# Altium schematic symbol library IntelFPGA.SchLib: 8 symbols (part 1 of 2)
Pins are listed as number, name and electrical type; pins without a type are passive.

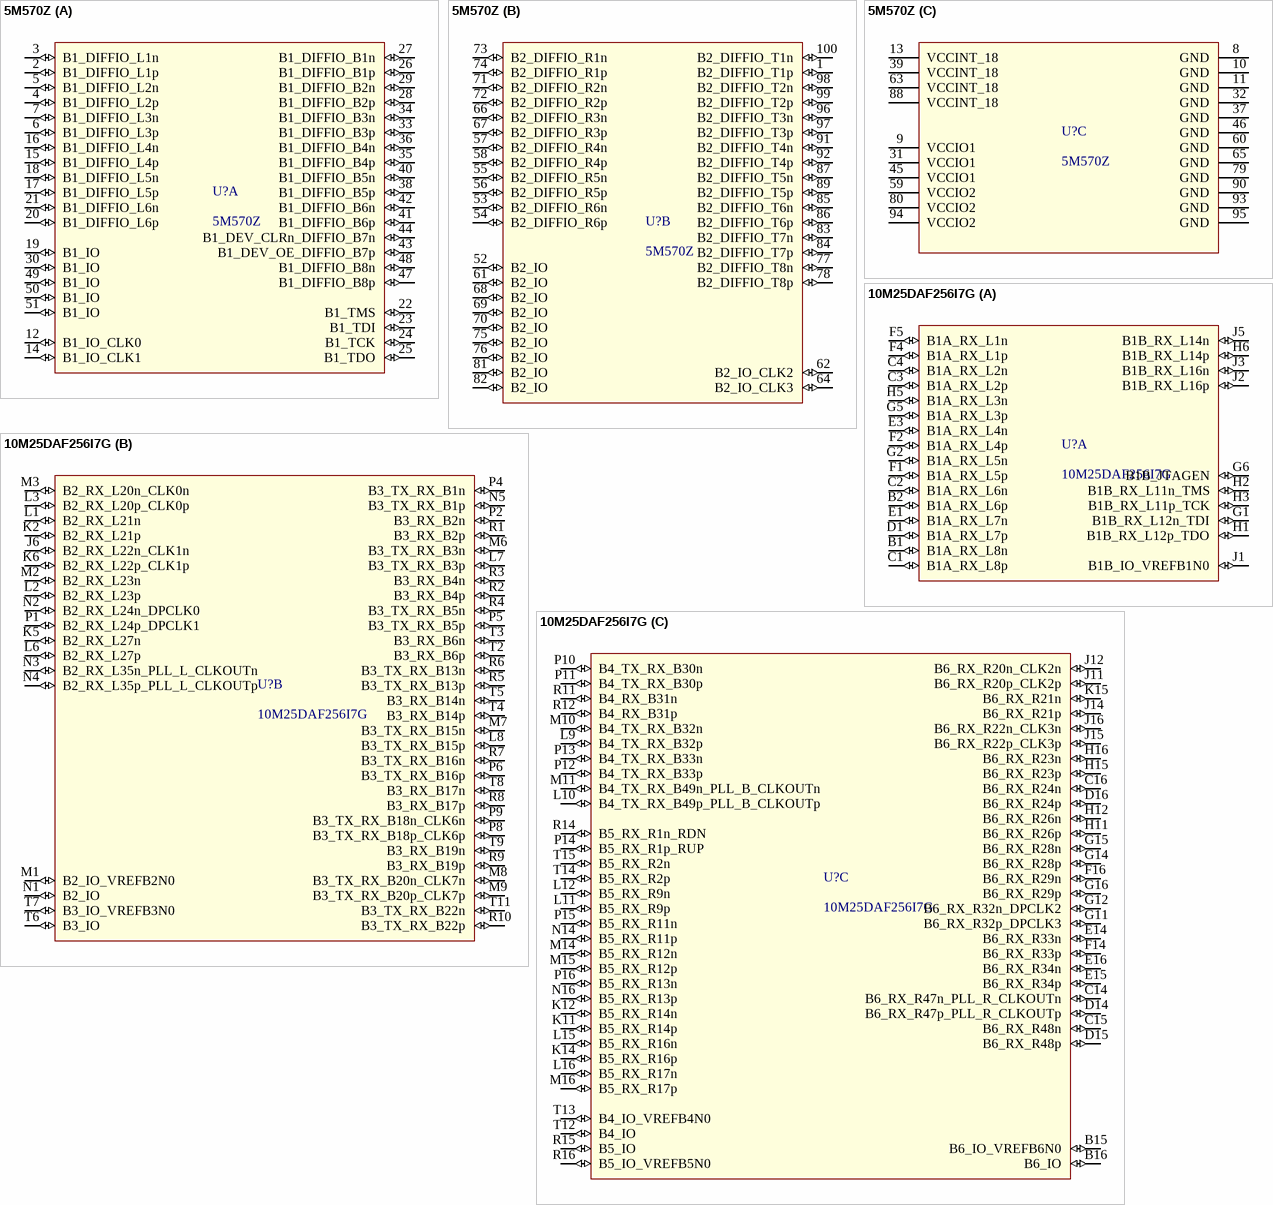
[diagram p0: symbols 5M570Z to 10M25DAF256I7G]

## 5M570Z
designator U?
Manufacturer: Intel; Part number: 10M25DAF256I7G
footprint LQFP100
part A pins: 2 B1_DIFFIO_L1p (io), 3 B1_DIFFIO_L1n (io), 4 B1_DIFFIO_L2p (io), 5 B1_DIFFIO_L2n (io), 6 B1_DIFFIO_L3p (io), 7 B1_DIFFIO_L3n (io), 12 B1_IO_CLK0 (io), 14 B1_IO_CLK1 (io), 15 B1_DIFFIO_L4p (io), 16 B1_DIFFIO_L4n (io), 17 B1_DIFFIO_L5p (io), 18 B1_DIFFIO_L5n (io), 19 B1_IO (io), 20 B1_DIFFIO_L6p (io), 21 B1_DIFFIO_L6n (io), 22 B1_TMS (io), 23 B1_TDI (io), 24 B1_TCK (io), 25 B1_TDO (io), 26 B1_DIFFIO_B1p (io), 27 B1_DIFFIO_B1n (io), 28 B1_DIFFIO_B2p (io), 29 B1_DIFFIO_B2n (io), 30 B1_IO (io), 33 B1_DIFFIO_B3p (io), 34 B1_DIFFIO_B3n (io), 35 B1_DIFFIO_B4p (io), 36 B1_DIFFIO_B4n (io), 38 B1_DIFFIO_B5p (io), 40 B1_DIFFIO_B5n (io), 41 B1_DIFFIO_B6p (io), 42 B1_DIFFIO_B6n (io), 43 B1_DEV_OE_DIFFIO_B7p (io), 44 B1_DEV_CLRn_DIFFIO_B7n (io), 47 B1_DIFFIO_B8p (io), 48 B1_DIFFIO_B8n (io), 49 B1_IO (io), 50 B1_IO (io), 51 B1_IO (io)
part B pins: 1 B2_DIFFIO_T1p (io), 52 B2_IO (io), 53 B2_DIFFIO_R6n (io), 54 B2_DIFFIO_R6p (io), 55 B2_DIFFIO_R5n (io), 56 B2_DIFFIO_R5p (io), 57 B2_DIFFIO_R4n (io), 58 B2_DIFFIO_R4p (io), 61 B2_IO (io), 62 B2_IO_CLK2 (io), 64 B2_IO_CLK3 (io), 66 B2_DIFFIO_R3n (io), 67 B2_DIFFIO_R3p (io), 68 B2_IO (io), 69 B2_IO (io), 70 B2_IO (io), 71 B2_DIFFIO_R2n (io), 72 B2_DIFFIO_R2p (io), 73 B2_DIFFIO_R1n (io), 74 B2_DIFFIO_R1p (io), 75 B2_IO (io), 76 B2_IO (io), 77 B2_DIFFIO_T8n (io), 78 B2_DIFFIO_T8p (io), 81 B2_IO (io), 82 B2_IO (io), 83 B2_DIFFIO_T7n (io), 84 B2_DIFFIO_T7p (io), 85 B2_DIFFIO_T6n (io), 86 B2_DIFFIO_T6p (io), 87 B2_DIFFIO_T5n (io), 89 B2_DIFFIO_T5p (io), 91 B2_DIFFIO_T4n (io), 92 B2_DIFFIO_T4p (io), 96 B2_DIFFIO_T3n (io), 97 B2_DIFFIO_T3p (io), 98 B2_DIFFIO_T2n (io), 99 B2_DIFFIO_T2p (io), 100 B2_DIFFIO_T1n (io)
part C pins: 8 GND (power), 9 VCCIO1 (power), 10 GND (power), 11 GND (power), 13 VCCINT_18 (power), 31 VCCIO1 (power), 32 GND (power), 37 GND (power), 39 VCCINT_18 (power), 45 VCCIO1 (power), 46 GND (power), 59 VCCIO2 (power), 60 GND (power), 63 VCCINT_18 (power), 65 GND (power), 79 GND (power), 80 VCCIO2 (power), 88 VCCINT_18 (power), 90 GND (power), 93 GND (power), 94 VCCIO2 (power), 95 GND (power)

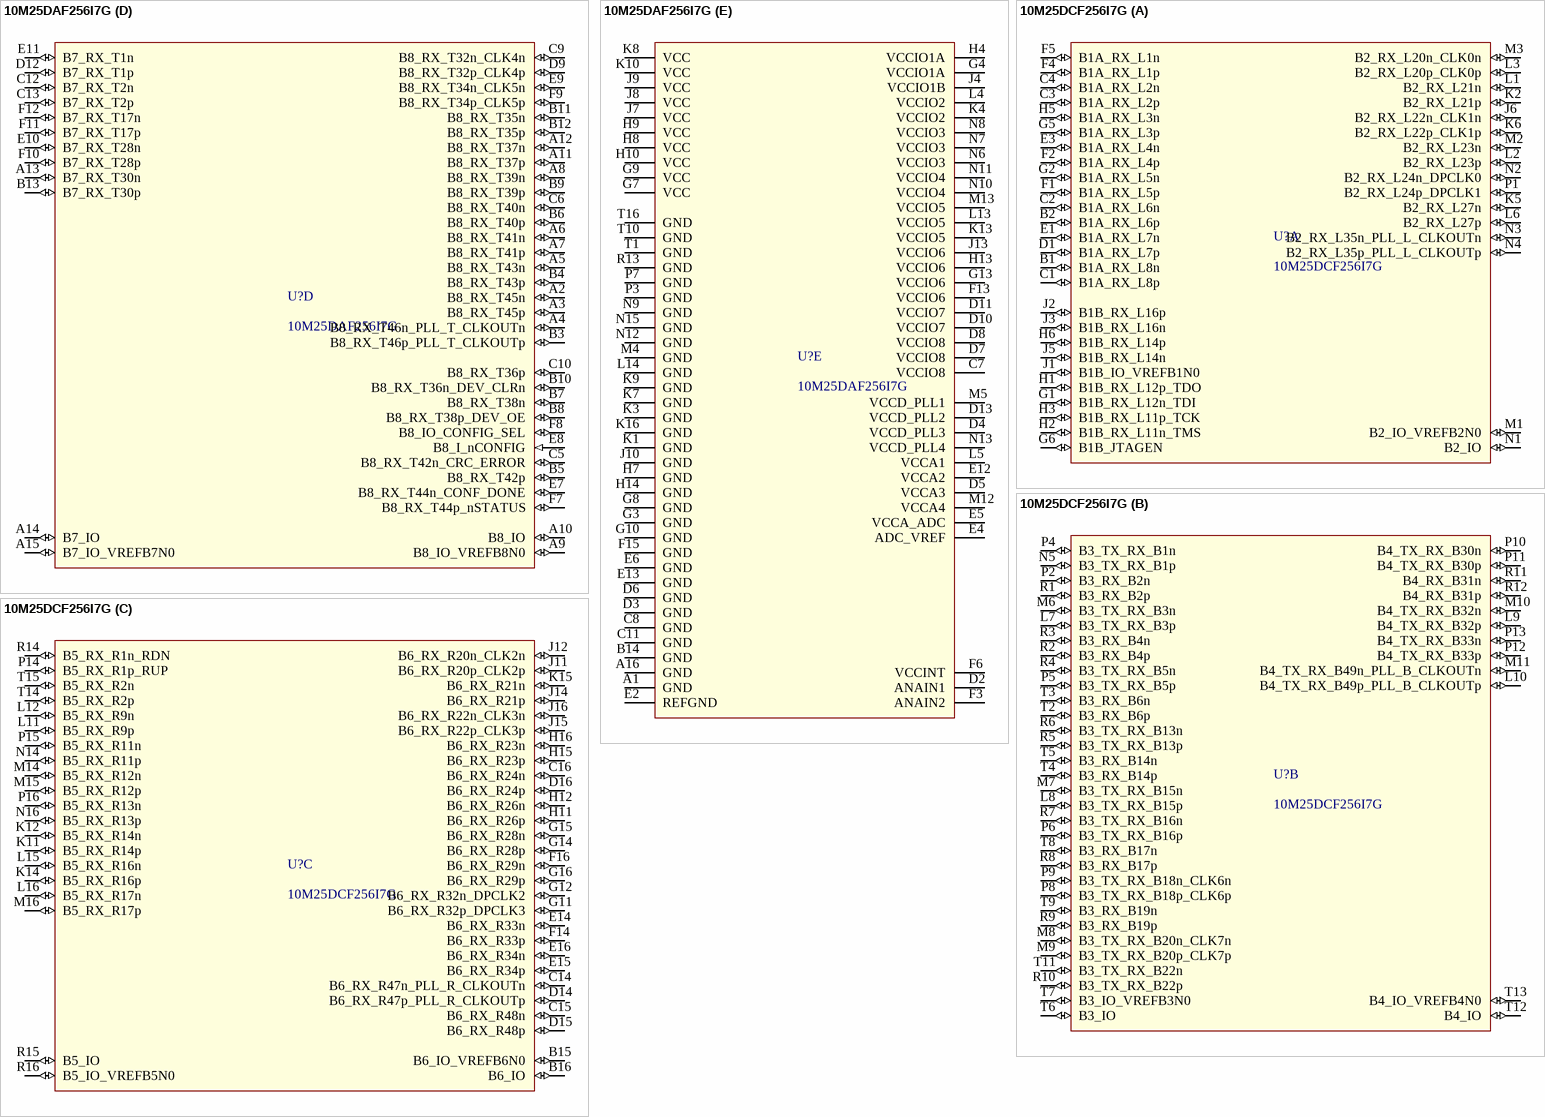
[diagram p1: symbols 10M25DAF256I7G to 10M25DCF256I7G]

## 10M25DAF256I7G
designator U?
Manufacturer: Intel; Part number: 10M25DAF256I7G
footprint BGA256C100P16X16_1700X1700X155
part A pins: B1 B1A_RX_L8n (io), B2 B1A_RX_L6p (io), C1 B1A_RX_L8p (io), C2 B1A_RX_L6n (io), C3 B1A_RX_L2p (io), C4 B1A_RX_L2n (io), D1 B1A_RX_L7p (io), E1 B1A_RX_L7n (io), E3 B1A_RX_L4n (io), F1 B1A_RX_L5p (io), F2 B1A_RX_L4p (io), F4 B1A_RX_L1p (io), F5 B1A_RX_L1n (io), G1 B1B_RX_L12n_TDI (io), G2 B1A_RX_L5n (io), G5 B1A_RX_L3p (io), G6 B1B_JTAGEN (io), H1 B1B_RX_L12p_TDO (io), H2 B1B_RX_L11n_TMS (io), H3 B1B_RX_L11p_TCK (io), H5 B1A_RX_L3n (io), H6 B1B_RX_L14p (io), J1 B1B_IO_VREFB1N0 (io), J2 B1B_RX_L16p (io), J3 B1B_RX_L16n (io), J5 B1B_RX_L14n (io)
part B pins: J6 B2_RX_L22n_CLK1n (io), K2 B2_RX_L21p (io), K5 B2_RX_L27n (io), K6 B2_RX_L22p_CLK1p (io), L1 B2_RX_L21n (io), L2 B2_RX_L23p (io), L3 B2_RX_L20p_CLK0p (io), L6 B2_RX_L27p (io), L7 B3_TX_RX_B3p (io), L8 B3_TX_RX_B15p (io), M1 B2_IO_VREFB2N0 (io), M2 B2_RX_L23n (io), M3 B2_RX_L20n_CLK0n (io), M6 B3_TX_RX_B3n (io), M7 B3_TX_RX_B15n (io), M8 B3_TX_RX_B20n_CLK7n (io), M9 B3_TX_RX_B20p_CLK7p (io), N1 B2_IO (io), N2 B2_RX_L24n_DPCLK0 (io), N3 B2_RX_L35n_PLL_L_CLKOUTn (io), N4 B2_RX_L35p_PLL_L_CLKOUTp (io), N5 B3_TX_RX_B1p (io), P1 B2_RX_L24p_DPCLK1 (io), P2 B3_RX_B2n (io), P4 B3_TX_RX_B1n (io), P5 B3_TX_RX_B5p (io), P6 B3_TX_RX_B16p (io), P8 B3_TX_RX_B18p_CLK6p (io), P9 B3_TX_RX_B18n_CLK6n (io), R1 B3_RX_B2p (io), R2 B3_RX_B4p (io), R3 B3_RX_B4n (io), R4 B3_TX_RX_B5n (io), R5 B3_TX_RX_B13p (io), R6 B3_TX_RX_B13n (io), R7 B3_TX_RX_B16n (io), R8 B3_RX_B17p (io), R9 B3_RX_B19p (io), R10 B3_TX_RX_B22p (io), T2 B3_RX_B6p (io), T3 B3_RX_B6n (io), T4 B3_RX_B14p (io), T5 B3_RX_B14n (io), T6 B3_IO (io), T7 B3_IO_VREFB3N0 (io), T8 B3_RX_B17n (io), T9 B3_RX_B19n (io), T11 B3_TX_RX_B22n (io)
part C pins: B15 B6_IO_VREFB6N0 (io), B16 B6_IO (io), C14 B6_RX_R47n_PLL_R_CLKOUTn (io), C15 B6_RX_R48n (io), C16 B6_RX_R24n (io), D14 B6_RX_R47p_PLL_R_CLKOUTp (io), D15 B6_RX_R48p (io), D16 B6_RX_R24p (io), E14 B6_RX_R33n (io), E15 B6_RX_R34p (io), E16 B6_RX_R34n (io), F14 B6_RX_R33p (io), F16 B6_RX_R29n (io), G11 B6_RX_R32p_DPCLK3 (io), G12 B6_RX_R32n_DPCLK2 (io), G14 B6_RX_R28p (io), G15 B6_RX_R28n (io), G16 B6_RX_R29p (io), H11 B6_RX_R26p (io), H12 B6_RX_R26n (io), H15 B6_RX_R23p (io), H16 B6_RX_R23n (io), J11 B6_RX_R20p_CLK2p (io), J12 B6_RX_R20n_CLK2n (io), J14 B6_RX_R21p (io), J15 B6_RX_R22p_CLK3p (io), J16 B6_RX_R22n_CLK3n (io), K11 B5_RX_R14p (io), K12 B5_RX_R14n (io), K14 B5_RX_R16p (io), K15 B6_RX_R21n (io), L9 B4_TX_RX_B32p (io), L10 B4_TX_RX_B49p_PLL_B_CLKOUTp (io), L11 B5_RX_R9p (io), L12 B5_RX_R9n (io), L15 B5_RX_R16n (io), L16 B5_RX_R17n (io), M10 B4_TX_RX_B32n (io), M11 B4_TX_RX_B49n_PLL_B_CLKOUTn (io), M14 B5_RX_R12n (io), M15 B5_RX_R12p (io), M16 B5_RX_R17p (io), N14 B5_RX_R11p (io), N16 B5_RX_R13p (io), P10 B4_TX_RX_B30n (io), P11 B4_TX_RX_B30p (io), P12 B4_TX_RX_B33p (io), P13 B4_TX_RX_B33n (io), P14 B5_RX_R1p_RUP (io), P15 B5_RX_R11n (io), P16 B5_RX_R13n (io), R11 B4_RX_B31n (io), R12 B4_RX_B31p (io), R14 B5_RX_R1n_RDN (io), R15 B5_IO (io), R16 B5_IO_VREFB5N0 (io), T12 B4_IO (io), T13 B4_IO_VREFB4N0 (io), T14 B5_RX_R2p (io), T15 B5_RX_R2n (io)
part D pins: A2 B8_RX_T45n (io), A3 B8_RX_T45p (io), A4 B8_RX_T46n_PLL_T_CLKOUTn (io), A5 B8_RX_T43n (io), A6 B8_RX_T41n (io), A7 B8_RX_T41p (io), A8 B8_RX_T39n (io), A9 B8_IO_VREFB8N0 (io), A10 B8_IO (io), A11 B8_RX_T37p (io), A12 B8_RX_T37n (io), A13 B7_RX_T30n (io), A14 B7_IO (io), A15 B7_IO_VREFB7N0 (io), B3 B8_RX_T46p_PLL_T_CLKOUTp (io), B4 B8_RX_T43p (io), B5 B8_RX_T42p (io), B6 B8_RX_T40p (io), B7 B8_RX_T38n (io), B8 B8_RX_T38p_DEV_OE (io), B9 B8_RX_T39p (io), B10 B8_RX_T36n_DEV_CLRn (io), B11 B8_RX_T35n (io), B12 B8_RX_T35p (io), B13 B7_RX_T30p (io), C5 B8_RX_T42n_CRC_ERROR (io), C6 B8_RX_T40n (io), C9 B8_RX_T32n_CLK4n (io), C10 B8_RX_T36p (io), C12 B7_RX_T2n (io), C13 B7_RX_T2p (io), D9 B8_RX_T32p_CLK4p (io), D12 B7_RX_T1p (io), E7 B8_RX_T44n_CONF_DONE (io), E8 B8_I_nCONFIG (in), E9 B8_RX_T34n_CLK5n (io), E10 B7_RX_T28n (io), E11 B7_RX_T1n (io), F7 B8_RX_T44p_nSTATUS (io), F8 B8_IO_CONFIG_SEL (io), F9 B8_RX_T34p_CLK5p (io), F10 B7_RX_T28p (io), F11 B7_RX_T17p (io), F12 B7_RX_T17n (io)
part E pins: A1 GND (power), A16 GND (power), B14 GND (power), C7 VCCIO8 (power), C8 GND (power), C11 GND (power), D2 ANAIN1 (power), D3 GND (power), D4 VCCD_PLL3 (power), D5 VCCA3 (power), D6 GND (power), D7 VCCIO8 (power), D8 VCCIO8 (power), D10 VCCIO7 (power), D11 VCCIO7 (power), D13 VCCD_PLL2 (power), E2 REFGND (power), E4 ADC_VREF (power), E5 VCCA_ADC (power), E6 GND (power), E12 VCCA2 (power), E13 GND (power), F3 ANAIN2 (power), F6 VCCINT (power), F13 VCCIO6 (power), F15 GND (power), G3 GND (power), G4 VCCIO1A (power), G7 VCC (power), G8 GND (power), G9 VCC (power), G10 GND (power), G13 VCCIO6 (power), H4 VCCIO1A (power), H7 GND (power), H8 VCC (power), H9 VCC (power), H10 VCC (power), H13 VCCIO6 (power), H14 GND (power), J4 VCCIO1B (power), J7 VCC (power), J8 VCC (power), J9 VCC (power), J10 GND (power), J13 VCCIO6 (power), K1 GND (power), K3 GND (power), K4 VCCIO2 (power), K7 GND (power), K8 VCC (power), K9 GND (power), K10 VCC (power), K13 VCCIO5 (power), K16 GND (power), L4 VCCIO2 (power), L5 VCCA1 (power), L13 VCCIO5 (power), L14 GND (power), M4 GND (power), M5 VCCD_PLL1 (power), M12 VCCA4 (power), M13 VCCIO5 (power), N6 VCCIO3 (power), N7 VCCIO3 (power), N8 VCCIO3 (power), N9 GND (power), N10 VCCIO4 (power), N11 VCCIO4 (power), N12 GND (power), N13 VCCD_PLL4 (power), N15 GND (power), P3 GND (power), P7 GND (power), R13 GND (power), T1 GND (power), T10 GND (power), T16 GND (power)

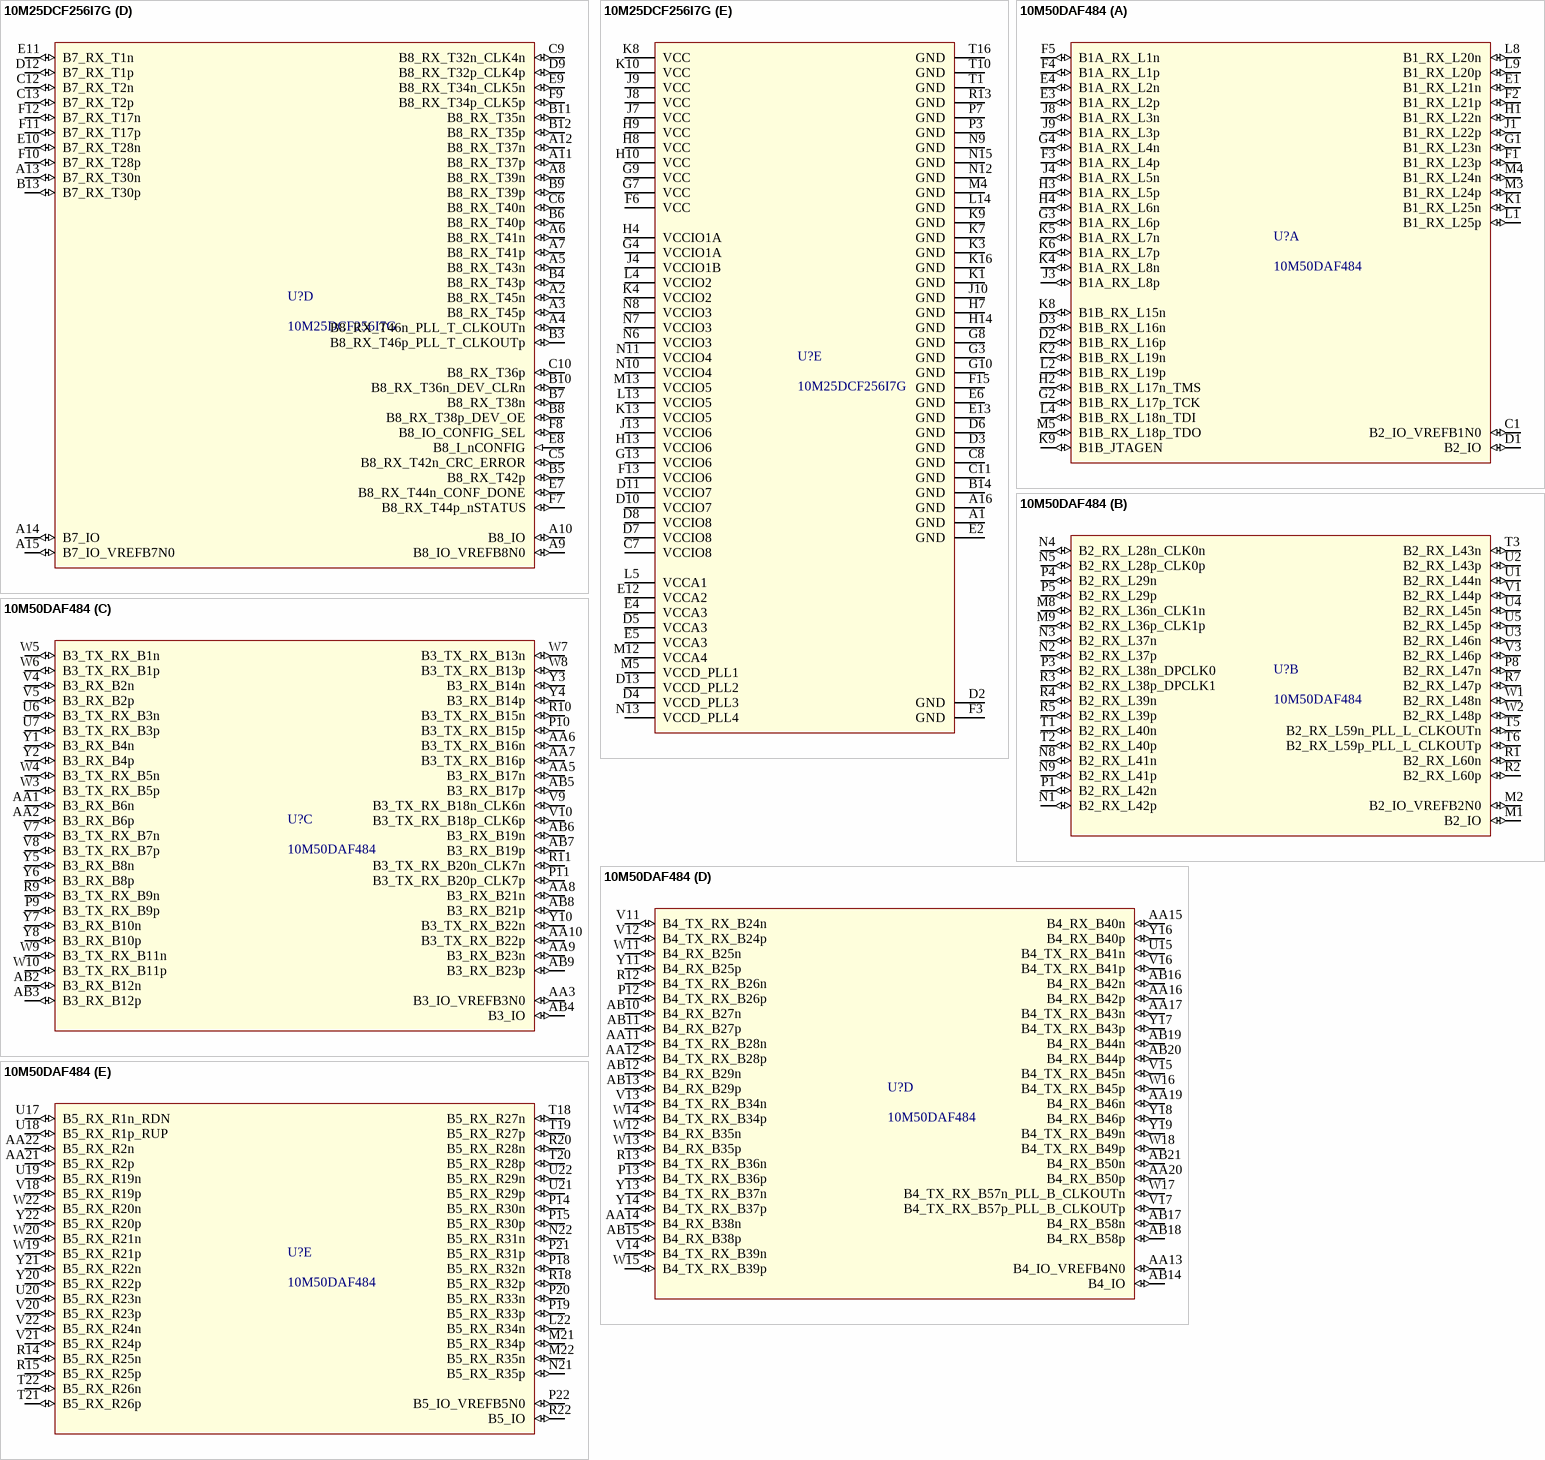
[diagram p2: symbols 10M25DCF256I7G to 10M50DAF484]

## 10M25DCF256I7G
designator U?
Manufacturer: Intel; Part number: 10M25DAF256I7G
footprint BGA256C100P16X16_1700X1700X155
part A pins: B1 B1A_RX_L8n (io), B2 B1A_RX_L6p (io), C1 B1A_RX_L8p (io), C2 B1A_RX_L6n (io), C3 B1A_RX_L2p (io), C4 B1A_RX_L2n (io), D1 B1A_RX_L7p (io), E1 B1A_RX_L7n (io), E3 B1A_RX_L4n (io), F1 B1A_RX_L5p (io), F2 B1A_RX_L4p (io), F4 B1A_RX_L1p (io), F5 B1A_RX_L1n (io), G1 B1B_RX_L12n_TDI (io), G2 B1A_RX_L5n (io), G5 B1A_RX_L3p (io), G6 B1B_JTAGEN (io), H1 B1B_RX_L12p_TDO (io), H2 B1B_RX_L11n_TMS (io), H3 B1B_RX_L11p_TCK (io), H5 B1A_RX_L3n (io), H6 B1B_RX_L14p (io), J1 B1B_IO_VREFB1N0 (io), J2 B1B_RX_L16p (io), J3 B1B_RX_L16n (io), J5 B1B_RX_L14n (io), J6 B2_RX_L22n_CLK1n (io), K2 B2_RX_L21p (io), K5 B2_RX_L27n (io), K6 B2_RX_L22p_CLK1p (io), L1 B2_RX_L21n (io), L2 B2_RX_L23p (io), L3 B2_RX_L20p_CLK0p (io), L6 B2_RX_L27p (io), M1 B2_IO_VREFB2N0 (io), M2 B2_RX_L23n (io), M3 B2_RX_L20n_CLK0n (io), N1 B2_IO (io), N2 B2_RX_L24n_DPCLK0 (io), N3 B2_RX_L35n_PLL_L_CLKOUTn (io), N4 B2_RX_L35p_PLL_L_CLKOUTp (io), P1 B2_RX_L24p_DPCLK1 (io)
part B pins: L7 B3_TX_RX_B3p (io), L8 B3_TX_RX_B15p (io), L9 B4_TX_RX_B32p (io), L10 B4_TX_RX_B49p_PLL_B_CLKOUTp (io), M6 B3_TX_RX_B3n (io), M7 B3_TX_RX_B15n (io), M8 B3_TX_RX_B20n_CLK7n (io), M9 B3_TX_RX_B20p_CLK7p (io), M10 B4_TX_RX_B32n (io), M11 B4_TX_RX_B49n_PLL_B_CLKOUTn (io), N5 B3_TX_RX_B1p (io), P2 B3_RX_B2n (io), P4 B3_TX_RX_B1n (io), P5 B3_TX_RX_B5p (io), P6 B3_TX_RX_B16p (io), P8 B3_TX_RX_B18p_CLK6p (io), P9 B3_TX_RX_B18n_CLK6n (io), P10 B4_TX_RX_B30n (io), P11 B4_TX_RX_B30p (io), P12 B4_TX_RX_B33p (io), P13 B4_TX_RX_B33n (io), R1 B3_RX_B2p (io), R2 B3_RX_B4p (io), R3 B3_RX_B4n (io), R4 B3_TX_RX_B5n (io), R5 B3_TX_RX_B13p (io), R6 B3_TX_RX_B13n (io), R7 B3_TX_RX_B16n (io), R8 B3_RX_B17p (io), R9 B3_RX_B19p (io), R10 B3_TX_RX_B22p (io), R11 B4_RX_B31n (io), R12 B4_RX_B31p (io), T2 B3_RX_B6p (io), T3 B3_RX_B6n (io), T4 B3_RX_B14p (io), T5 B3_RX_B14n (io), T6 B3_IO (io), T7 B3_IO_VREFB3N0 (io), T8 B3_RX_B17n (io), T9 B3_RX_B19n (io), T11 B3_TX_RX_B22n (io), T12 B4_IO (io), T13 B4_IO_VREFB4N0 (io)
part C pins: B15 B6_IO_VREFB6N0 (io), B16 B6_IO (io), C14 B6_RX_R47n_PLL_R_CLKOUTn (io), C15 B6_RX_R48n (io), C16 B6_RX_R24n (io), D14 B6_RX_R47p_PLL_R_CLKOUTp (io), D15 B6_RX_R48p (io), D16 B6_RX_R24p (io), E14 B6_RX_R33n (io), E15 B6_RX_R34p (io), E16 B6_RX_R34n (io), F14 B6_RX_R33p (io), F16 B6_RX_R29n (io), G11 B6_RX_R32p_DPCLK3 (io), G12 B6_RX_R32n_DPCLK2 (io), G14 B6_RX_R28p (io), G15 B6_RX_R28n (io), G16 B6_RX_R29p (io), H11 B6_RX_R26p (io), H12 B6_RX_R26n (io), H15 B6_RX_R23p (io), H16 B6_RX_R23n (io), J11 B6_RX_R20p_CLK2p (io), J12 B6_RX_R20n_CLK2n (io), J14 B6_RX_R21p (io), J15 B6_RX_R22p_CLK3p (io), J16 B6_RX_R22n_CLK3n (io), K11 B5_RX_R14p (io), K12 B5_RX_R14n (io), K14 B5_RX_R16p (io), K15 B6_RX_R21n (io), L11 B5_RX_R9p (io), L12 B5_RX_R9n (io), L15 B5_RX_R16n (io), L16 B5_RX_R17n (io), M14 B5_RX_R12n (io), M15 B5_RX_R12p (io), M16 B5_RX_R17p (io), N14 B5_RX_R11p (io), N16 B5_RX_R13p (io), P14 B5_RX_R1p_RUP (io), P15 B5_RX_R11n (io), P16 B5_RX_R13n (io), R14 B5_RX_R1n_RDN (io), R15 B5_IO (io), R16 B5_IO_VREFB5N0 (io), T14 B5_RX_R2p (io), T15 B5_RX_R2n (io)
part D pins: A2 B8_RX_T45n (io), A3 B8_RX_T45p (io), A4 B8_RX_T46n_PLL_T_CLKOUTn (io), A5 B8_RX_T43n (io), A6 B8_RX_T41n (io), A7 B8_RX_T41p (io), A8 B8_RX_T39n (io), A9 B8_IO_VREFB8N0 (io), A10 B8_IO (io), A11 B8_RX_T37p (io), A12 B8_RX_T37n (io), A13 B7_RX_T30n (io), A14 B7_IO (io), A15 B7_IO_VREFB7N0 (io), B3 B8_RX_T46p_PLL_T_CLKOUTp (io), B4 B8_RX_T43p (io), B5 B8_RX_T42p (io), B6 B8_RX_T40p (io), B7 B8_RX_T38n (io), B8 B8_RX_T38p_DEV_OE (io), B9 B8_RX_T39p (io), B10 B8_RX_T36n_DEV_CLRn (io), B11 B8_RX_T35n (io), B12 B8_RX_T35p (io), B13 B7_RX_T30p (io), C5 B8_RX_T42n_CRC_ERROR (io), C6 B8_RX_T40n (io), C9 B8_RX_T32n_CLK4n (io), C10 B8_RX_T36p (io), C12 B7_RX_T2n (io), C13 B7_RX_T2p (io), D9 B8_RX_T32p_CLK4p (io), D12 B7_RX_T1p (io), E7 B8_RX_T44n_CONF_DONE (io), E8 B8_I_nCONFIG (in), E9 B8_RX_T34n_CLK5n (io), E10 B7_RX_T28n (io), E11 B7_RX_T1n (io), F7 B8_RX_T44p_nSTATUS (io), F8 B8_IO_CONFIG_SEL (io), F9 B8_RX_T34p_CLK5p (io), F10 B7_RX_T28p (io), F11 B7_RX_T17p (io), F12 B7_RX_T17n (io)
part E pins: A1 GND (power), A16 GND (power), B14 GND (power), C7 VCCIO8 (power), C8 GND (power), C11 GND (power), D2 GND (power), D3 GND (power), D4 VCCD_PLL3 (power), D5 VCCA3 (power), D6 GND (power), D7 VCCIO8 (power), D8 VCCIO8 (power), D10 VCCIO7 (power), D11 VCCIO7 (power), D13 VCCD_PLL2 (power), E2 GND (power), E4 VCCA3 (power), E5 VCCA3 (power), E6 GND (power), E12 VCCA2 (power), E13 GND (power), F3 GND (power), F6 VCC (power), F13 VCCIO6 (power), F15 GND (power), G3 GND (power), G4 VCCIO1A (power), G7 VCC (power), G8 GND (power), G9 VCC (power), G10 GND (power), G13 VCCIO6 (power), H4 VCCIO1A (power), H7 GND (power), H8 VCC (power), H9 VCC (power), H10 VCC (power), H13 VCCIO6 (power), H14 GND (power), J4 VCCIO1B (power), J7 VCC (power), J8 VCC (power), J9 VCC (power), J10 GND (power), J13 VCCIO6 (power), K1 GND (power), K3 GND (power), K4 VCCIO2 (power), K7 GND (power), K8 VCC (power), K9 GND (power), K10 VCC (power), K13 VCCIO5 (power), K16 GND (power), L4 VCCIO2 (power), L5 VCCA1 (power), L13 VCCIO5 (power), L14 GND (power), M4 GND (power), M5 VCCD_PLL1 (power), M12 VCCA4 (power), M13 VCCIO5 (power), N6 VCCIO3 (power), N7 VCCIO3 (power), N8 VCCIO3 (power), N9 GND (power), N10 VCCIO4 (power), N11 VCCIO4 (power), N12 GND (power), N13 VCCD_PLL4 (power), N15 GND (power), P3 GND (power), P7 GND (power), R13 GND (power), T1 GND (power), T10 GND (power), T16 GND (power)

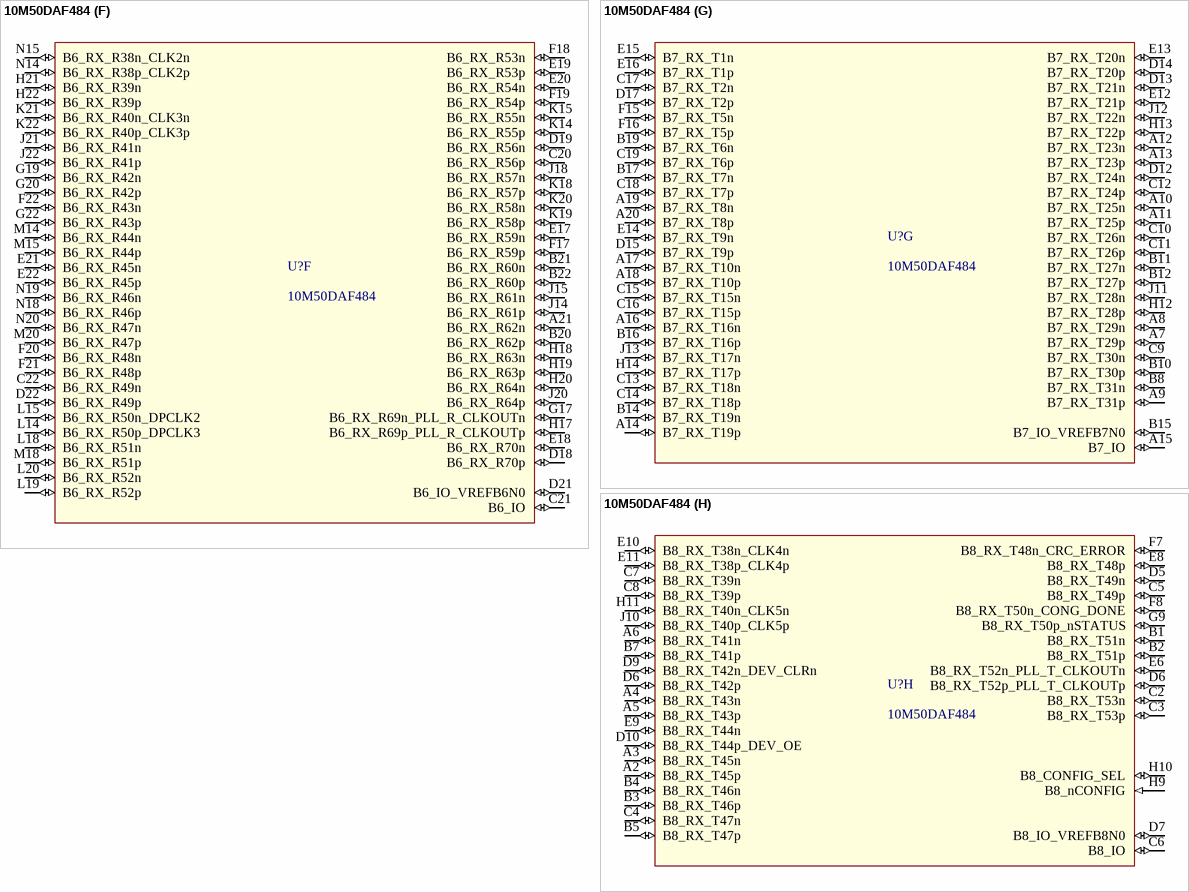
[diagram p3: symbol 10M50DAF484]

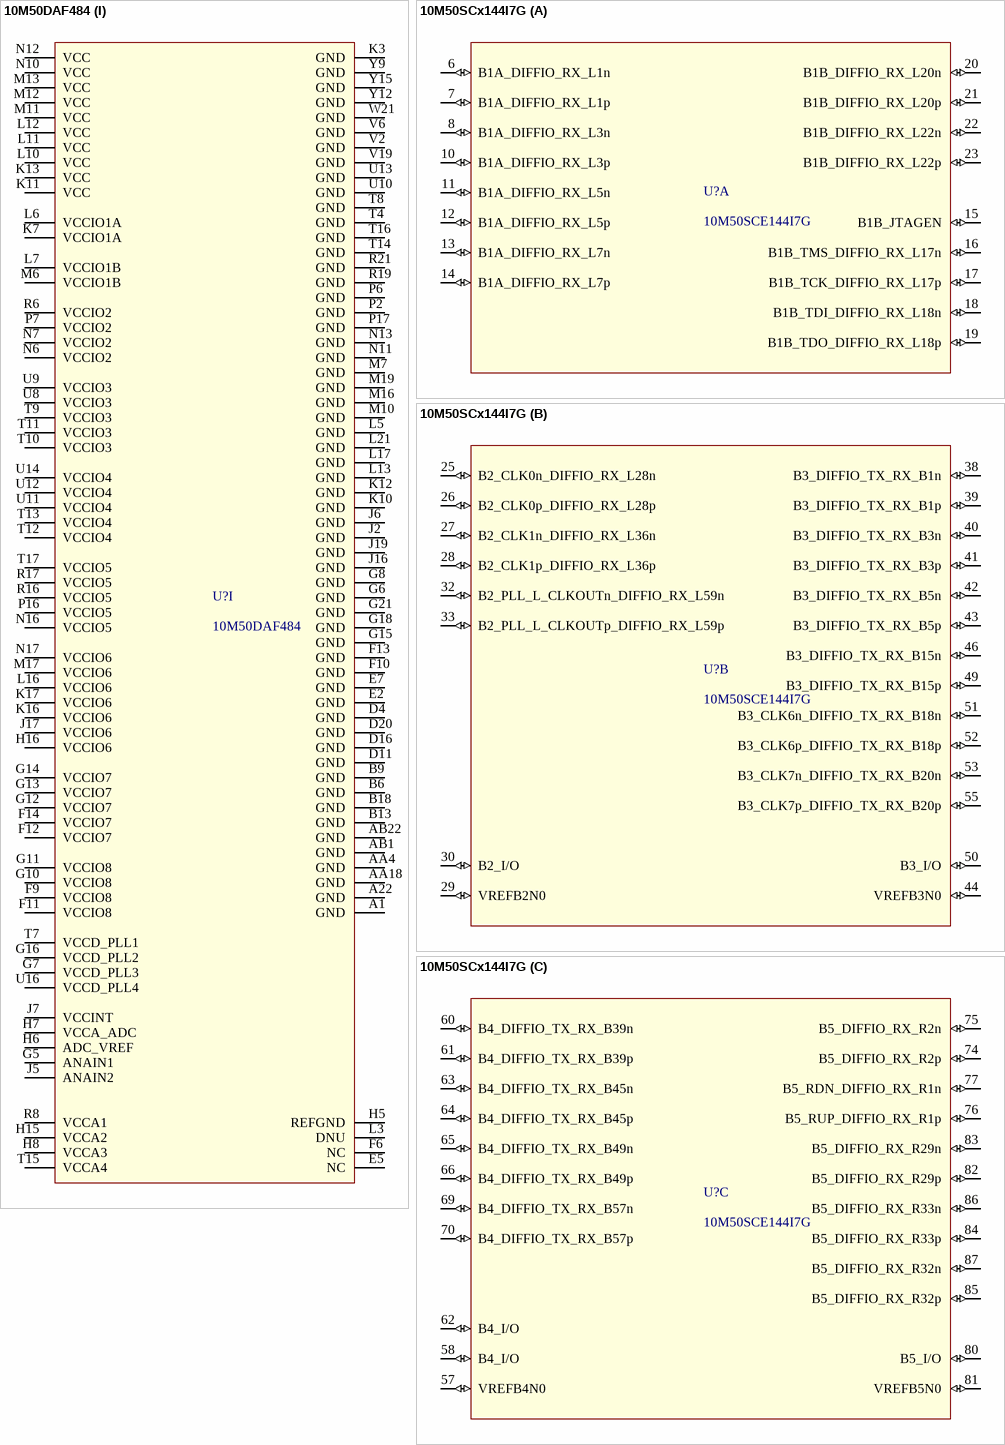
[diagram p4: symbols 10M50DAF484 to 10M50SCx144I7G]

## 10M50DAF484
designator U?
Manufacturer: Intel; Part number: 10M50DAF484
footprint BGA484C100P22X22_2300X2300X200N
part A pins: C1 B2_IO_VREFB1N0 (io), D1 B2_IO (io), D2 B1B_RX_L16p (io), D3 B1B_RX_L16n (io), E1 B1_RX_L21n (io), E3 B1A_RX_L2p (io), E4 B1A_RX_L2n (io), F1 B1_RX_L23p (io), F2 B1_RX_L21p (io), F3 B1A_RX_L4p (io), F4 B1A_RX_L1p (io), F5 B1A_RX_L1n (io), G1 B1_RX_L23n (io), G2 B1B_RX_L17p_TCK (io), G3 B1A_RX_L6p (io), G4 B1A_RX_L4n (io), H1 B1_RX_L22n (io), H2 B1B_RX_L17n_TMS (io), H3 B1A_RX_L5p (io), H4 B1A_RX_L6n (io), J1 B1_RX_L22p (io), J3 B1A_RX_L8p (io), J4 B1A_RX_L5n (io), J8 B1A_RX_L3n (io), J9 B1A_RX_L3p (io), K1 B1_RX_L25n (io), K2 B1B_RX_L19n (io), K4 B1A_RX_L8n (io), K5 B1A_RX_L7n (io), K6 B1A_RX_L7p (io), K8 B1B_RX_L15n (io), K9 B1B_JTAGEN (io), L1 B1_RX_L25p (io), L2 B1B_RX_L19p (io), L4 B1B_RX_L18n_TDI (io), L8 B1_RX_L20n (io), L9 B1_RX_L20p (io), M3 B1_RX_L24p (io), M4 B1_RX_L24n (io), M5 B1B_RX_L18p_TDO (io)
part B pins: M1 B2_IO (io), M2 B2_IO_VREFB2N0 (io), M8 B2_RX_L36n_CLK1n (io), M9 B2_RX_L36p_CLK1p (io), N1 B2_RX_L42p (io), N2 B2_RX_L37p (io), N3 B2_RX_L37n (io), N4 B2_RX_L28n_CLK0n (io), N5 B2_RX_L28p_CLK0p (io), N8 B2_RX_L41n (io), N9 B2_RX_L41p (io), P1 B2_RX_L42n (io), P3 B2_RX_L38n_DPCLK0 (io), P4 B2_RX_L29n (io), P5 B2_RX_L29p (io), P8 B2_RX_L47n (io), R1 B2_RX_L60n (io), R2 B2_RX_L60p (io), R3 B2_RX_L38p_DPCLK1 (io), R4 B2_RX_L39n (io), R5 B2_RX_L39p (io), R7 B2_RX_L47p (io), T1 B2_RX_L40n (io), T2 B2_RX_L40p (io), T3 B2_RX_L43n (io), T5 B2_RX_L59n_PLL_L_CLKOUTn (io), T6 B2_RX_L59p_PLL_L_CLKOUTp (io), U1 B2_RX_L44n (io), U2 B2_RX_L43p (io), U3 B2_RX_L46n (io), U4 B2_RX_L45n (io), U5 B2_RX_L45p (io), V1 B2_RX_L44p (io), V3 B2_RX_L46p (io), W1 B2_RX_L48n (io), W2 B2_RX_L48p (io)
part C pins: AA1 B3_RX_B6n (io), AA2 B3_RX_B6p (io), AA3 B3_IO_VREFB3N0 (io), AA5 B3_RX_B17n (io), AA6 B3_TX_RX_B16n (io), AA7 B3_TX_RX_B16p (io), AA8 B3_RX_B21n (io), AA9 B3_RX_B23n (io), AA10 B3_TX_RX_B22p (io), AB2 B3_RX_B12n (io), AB3 B3_RX_B12p (io), AB4 B3_IO (io), AB5 B3_RX_B17p (io), AB6 B3_RX_B19n (io), AB7 B3_RX_B19p (io), AB8 B3_RX_B21p (io), AB9 B3_RX_B23p (io), P9 B3_TX_RX_B9p (io), P10 B3_TX_RX_B15p (io), P11 B3_TX_RX_B20p_CLK7p (io), R9 B3_TX_RX_B9n (io), R10 B3_TX_RX_B15n (io), R11 B3_TX_RX_B20n_CLK7n (io), U6 B3_TX_RX_B3n (io), U7 B3_TX_RX_B3p (io), V4 B3_RX_B2n (io), V5 B3_RX_B2p (io), V7 B3_TX_RX_B7n (io), V8 B3_TX_RX_B7p (io), V9 B3_TX_RX_B18n_CLK6n (io), V10 B3_TX_RX_B18p_CLK6p (io), W3 B3_TX_RX_B5p (io), W4 B3_TX_RX_B5n (io), W5 B3_TX_RX_B1n (io), W6 B3_TX_RX_B1p (io), W7 B3_TX_RX_B13n (io), W8 B3_TX_RX_B13p (io), W9 B3_TX_RX_B11n (io), W10 B3_TX_RX_B11p (io), Y1 B3_RX_B4n (io), Y2 B3_RX_B4p (io), Y3 B3_RX_B14n (io), Y4 B3_RX_B14p (io), Y5 B3_RX_B8n (io), Y6 B3_RX_B8p (io), Y7 B3_RX_B10n (io), Y8 B3_RX_B10p (io), Y10 B3_TX_RX_B22n (io)
part D pins: AA11 B4_TX_RX_B28n (io), AA12 B4_TX_RX_B28p (io), AA13 B4_IO_VREFB4N0 (io), AA14 B4_RX_B38n (io), AA15 B4_RX_B40n (io), AA16 B4_RX_B42p (io), AA17 B4_TX_RX_B43n (io), AA19 B4_RX_B46n (io), AA20 B4_RX_B50p (io), AB10 B4_RX_B27n (io), AB11 B4_RX_B27p (io), AB12 B4_RX_B29n (io), AB13 B4_RX_B29p (io), AB14 B4_IO (io), AB15 B4_RX_B38p (io), AB16 B4_RX_B42n (io), AB17 B4_RX_B58n (io), AB18 B4_RX_B58p (io), AB19 B4_RX_B44n (io), AB20 B4_RX_B44p (io), AB21 B4_RX_B50n (io), P12 B4_TX_RX_B26p (io), P13 B4_TX_RX_B36p (io), R12 B4_TX_RX_B26n (io), R13 B4_TX_RX_B36n (io), U15 B4_TX_RX_B41n (io), V11 B4_TX_RX_B24n (io), V12 B4_TX_RX_B24p (io), V13 B4_TX_RX_B34n (io), V14 B4_TX_RX_B39n (io), V15 B4_TX_RX_B45n (io), V16 B4_TX_RX_B41p (io), V17 B4_TX_RX_B57p_PLL_B_CLKOUTp (io), W11 B4_RX_B25n (io), W12 B4_RX_B35n (io), W13 B4_RX_B35p (io), W14 B4_TX_RX_B34p (io), W15 B4_TX_RX_B39p (io), W16 B4_TX_RX_B45p (io), W17 B4_TX_RX_B57n_PLL_B_CLKOUTn (io), W18 B4_TX_RX_B49p (io), Y11 B4_RX_B25p (io), Y13 B4_TX_RX_B37n (io), Y14 B4_TX_RX_B37p (io), Y16 B4_RX_B40p (io), Y17 B4_TX_RX_B43p (io), Y18 B4_RX_B46p (io), Y19 B4_TX_RX_B49n (io)
part E pins: AA21 B5_RX_R2p (io), AA22 B5_RX_R2n (io), L22 B5_RX_R34n (io), M21 B5_RX_R34p (io), M22 B5_RX_R35n (io), N21 B5_RX_R35p (io), N22 B5_RX_R31n (io), P14 B5_RX_R30n (io), P15 B5_RX_R30p (io), P18 B5_RX_R32n (io), P19 B5_RX_R33p (io), P20 B5_RX_R33n (io), P21 B5_RX_R31p (io), P22 B5_IO_VREFB5N0 (io), R14 B5_RX_R25n (io), R15 B5_RX_R25p (io), R18 B5_RX_R32p (io), R20 B5_RX_R28n (io), R22 B5_IO (io), T18 B5_RX_R27n (io), T19 B5_RX_R27p (io), T20 B5_RX_R28p (io), T21 B5_RX_R26p (io), T22 B5_RX_R26n (io), U17 B5_RX_R1n_RDN (io), U18 B5_RX_R1p_RUP (io), U19 B5_RX_R19n (io), U20 B5_RX_R23n (io), U21 B5_RX_R29p (io), U22 B5_RX_R29n (io), V18 B5_RX_R19p (io), V20 B5_RX_R23p (io), V21 B5_RX_R24p (io), V22 B5_RX_R24n (io), W19 B5_RX_R21p (io), W20 B5_RX_R21n (io), W22 B5_RX_R20n (io), Y20 B5_RX_R22p (io), Y21 B5_RX_R22n (io), Y22 B5_RX_R20p (io)
part F pins: A21 B6_RX_R62n (io), B20 B6_RX_R62p (io), B21 B6_RX_R60n (io), B22 B6_RX_R60p (io), C20 B6_RX_R56p (io), C21 B6_IO (io), C22 B6_RX_R49n (io), D18 B6_RX_R70p (io), D19 B6_RX_R56n (io), D21 B6_IO_VREFB6N0 (io), D22 B6_RX_R49p (io), E17 B6_RX_R59n (io), E18 B6_RX_R70n (io), E19 B6_RX_R53p (io), E20 B6_RX_R54n (io), E21 B6_RX_R45n (io), E22 B6_RX_R45p (io), F17 B6_RX_R59p (io), F18 B6_RX_R53n (io), F19 B6_RX_R54p (io), F20 B6_RX_R48n (io), F21 B6_RX_R48p (io), F22 B6_RX_R43n (io), G17 B6_RX_R69n_PLL_R_CLKOUTn (io), G19 B6_RX_R42n (io), G20 B6_RX_R42p (io), G22 B6_RX_R43p (io), H17 B6_RX_R69p_PLL_R_CLKOUTp (io), H18 B6_RX_R63n (io), H19 B6_RX_R63p (io), H20 B6_RX_R64n (io), H21 B6_RX_R39n (io), H22 B6_RX_R39p (io), J14 B6_RX_R61p (io), J15 B6_RX_R61n (io), J18 B6_RX_R57n (io), J20 B6_RX_R64p (io), J21 B6_RX_R41n (io), J22 B6_RX_R41p (io), K14 B6_RX_R55p (io), K15 B6_RX_R55n (io), K18 B6_RX_R57p (io), K19 B6_RX_R58p (io), K20 B6_RX_R58n (io), K21 B6_RX_R40n_CLK3n (io), K22 B6_RX_R40p_CLK3p (io), L14 B6_RX_R50p_DPCLK3 (io), L15 B6_RX_R50n_DPCLK2 (io), L18 B6_RX_R51n (io), L19 B6_RX_R52p (io), L20 B6_RX_R52n (io), M14 B6_RX_R44n (io), M15 B6_RX_R44p (io), M18 B6_RX_R51p (io), M20 B6_RX_R47p (io), N14 B6_RX_R38p_CLK2p (io), N15 B6_RX_R38n_CLK2n (io), N18 B6_RX_R46p (io), N19 B6_RX_R46n (io), N20 B6_RX_R47n (io)
part G pins: A7 B7_RX_T29p (io), A8 B7_RX_T29n (io), A9 B7_RX_T31p (io), A10 B7_RX_T25n (io), A11 B7_RX_T25p (io), A12 B7_RX_T23n (io), A13 B7_RX_T23p (io), A14 B7_RX_T19p (io), A15 B7_IO (io), A16 B7_RX_T16n (io), A17 B7_RX_T10n (io), A18 B7_RX_T10p (io), A19 B7_RX_T8n (io), A20 B7_RX_T8p (io), B8 B7_RX_T31n (io), B10 B7_RX_T30p (io), B11 B7_RX_T27n (io), B12 B7_RX_T27p (io), B14 B7_RX_T19n (io), B15 B7_IO_VREFB7N0 (io), B16 B7_RX_T16p (io), B17 B7_RX_T7n (io), B19 B7_RX_T6n (io), C9 B7_RX_T30n (io), C10 B7_RX_T26n (io), C11 B7_RX_T26p (io), C12 B7_RX_T24p (io), C13 B7_RX_T18n (io), C14 B7_RX_T18p (io), C15 B7_RX_T15n (io), C16 B7_RX_T15p (io), C17 B7_RX_T2n (io), C18 B7_RX_T7p (io), C19 B7_RX_T6p (io), D12 B7_RX_T24n (io), D13 B7_RX_T21n (io), D14 B7_RX_T20p (io), D15 B7_RX_T9p (io), D17 B7_RX_T2p (io), E12 B7_RX_T21p (io), E13 B7_RX_T20n (io), E14 B7_RX_T9n (io), E15 B7_RX_T1n (io), E16 B7_RX_T1p (io), F15 B7_RX_T5n (io), F16 B7_RX_T5p (io), H12 B7_RX_T28p (io), H13 B7_RX_T22p (io), H14 B7_RX_T17p (io), J11 B7_RX_T28n (io), J12 B7_RX_T22n (io), J13 B7_RX_T17n (io)
part H pins: A2 B8_RX_T45p (io), A3 B8_RX_T45n (io), A4 B8_RX_T43n (io), A5 B8_RX_T43p (io), A6 B8_RX_T41n (io), B1 B8_RX_T51n (io), B2 B8_RX_T51p (io), B3 B8_RX_T46p (io), B4 B8_RX_T46n (io), B5 B8_RX_T47p (io), B7 B8_RX_T41p (io), C2 B8_RX_T53n (io), C3 B8_RX_T53p (io), C4 B8_RX_T47n (io), C5 B8_RX_T49p (io), C6 B8_IO (io), C7 B8_RX_T39n (io), C8 B8_RX_T39p (io), D5 B8_RX_T49n (io), D6 B8_RX_T42p (io), D6 B8_RX_T52p_PLL_T_CLKOUTp (io), D7 B8_IO_VREFB8N0 (io), D9 B8_RX_T42n_DEV_CLRn (io), D10 B8_RX_T44p_DEV_OE (io), E6 B8_RX_T52n_PLL_T_CLKOUTn (io), E8 B8_RX_T48p (io), E9 B8_RX_T44n (io), E10 B8_RX_T38n_CLK4n (io), E11 B8_RX_T38p_CLK4p (io), F7 B8_RX_T48n_CRC_ERROR (io), F8 B8_RX_T50n_CONG_DONE (io), G9 B8_RX_T50p_nSTATUS (io), H9 B8_nCONFIG (in), H10 B8_CONFIG_SEL (io), H11 B8_RX_T40n_CLK5n (io), J10 B8_RX_T40p_CLK5p (io)
part I pins: A1 GND (power), A22 GND (power), AA4 GND (power), AA18 GND (power), AB1 GND (power), AB22 GND (power), B6 GND (power), B9 GND (power), B13 GND (power), B18 GND (power), D4 GND (power), D11 GND (power), D16 GND (power), D20 GND (power), E2 GND (power), E5 NC (power), E7 GND (power), F6 NC (power), F9 VCCIO8 (power), F10 GND (power), F11 VCCIO8 (power), F12 VCCIO7 (power), F13 GND (power), F14 VCCIO7 (power), G5 ANAIN1 (power), G6 GND (power), G7 VCCD_PLL3 (power), G8 GND (power), G10 VCCIO8 (power), G11 VCCIO8 (power), G12 VCCIO7 (power), G13 VCCIO7 (power), G14 VCCIO7 (power), G15 GND (power), G16 VCCD_PLL2 (power), G18 GND (power), G21 GND (power), H5 REFGND (power), H6 ADC_VREF (power), H7 VCCA_ADC (power), H8 VCCA3 (power), H15 VCCA2 (power), H16 VCCIO6 (power), J2 GND (power), J5 ANAIN2 (power), J6 GND (power), J7 VCCINT (power), J16 GND (power), J17 VCCIO6 (power), J19 GND (power), K3 GND (power), K7 VCCIO1A (power), K10 GND (power), K11 VCC (power), K12 GND (power), K13 VCC (power), K16 VCCIO6 (power), K17 VCCIO6 (power), L3 DNU (power), L5 GND (power), L6 VCCIO1A (power), L7 VCCIO1B (power), L10 VCC (power), L11 VCC (power), L12 VCC (power), L13 GND (power), L16 VCCIO6 (power), L17 GND (power), L21 GND (power), M6 VCCIO1B (power), M7 GND (power), M10 GND (power), M11 VCC (power), M12 VCC (power), M13 VCC (power), M16 GND (power), M17 VCCIO6 (power), M19 GND (power), N6 VCCIO2 (power), N7 VCCIO2 (power), N10 VCC (power), N11 GND (power), N12 VCC (power), N13 GND (power), N16 VCCIO5 (power), N17 VCCIO6 (power), P2 GND (power), P6 GND (power), P7 VCCIO2 (power), P16 VCCIO5 (power), P17 GND (power), R6 VCCIO2 (power), R8 VCCA1 (power), R16 VCCIO5 (power), R17 VCCIO5 (power), R19 GND (power), R21 GND (power), T4 GND (power), T7 VCCD_PLL1 (power), T8 GND (power), T9 VCCIO3 (power), T10 VCCIO3 (power), T11 VCCIO3 (power), T12 VCCIO4 (power), T13 VCCIO4 (power), T14 GND (power), T15 VCCA4 (power), T16 GND (power), T17 VCCIO5 (power), U8 VCCIO3 (power), U9 VCCIO3 (power), U10 GND (power), U11 VCCIO4 (power), U12 VCCIO4 (power), U13 GND (power), U14 VCCIO4 (power), U16 VCCD_PLL4 (power), V2 GND (power), V6 GND (power), V19 GND (power), W21 GND (power), Y9 GND (power), Y12 GND (power), Y15 GND (power)

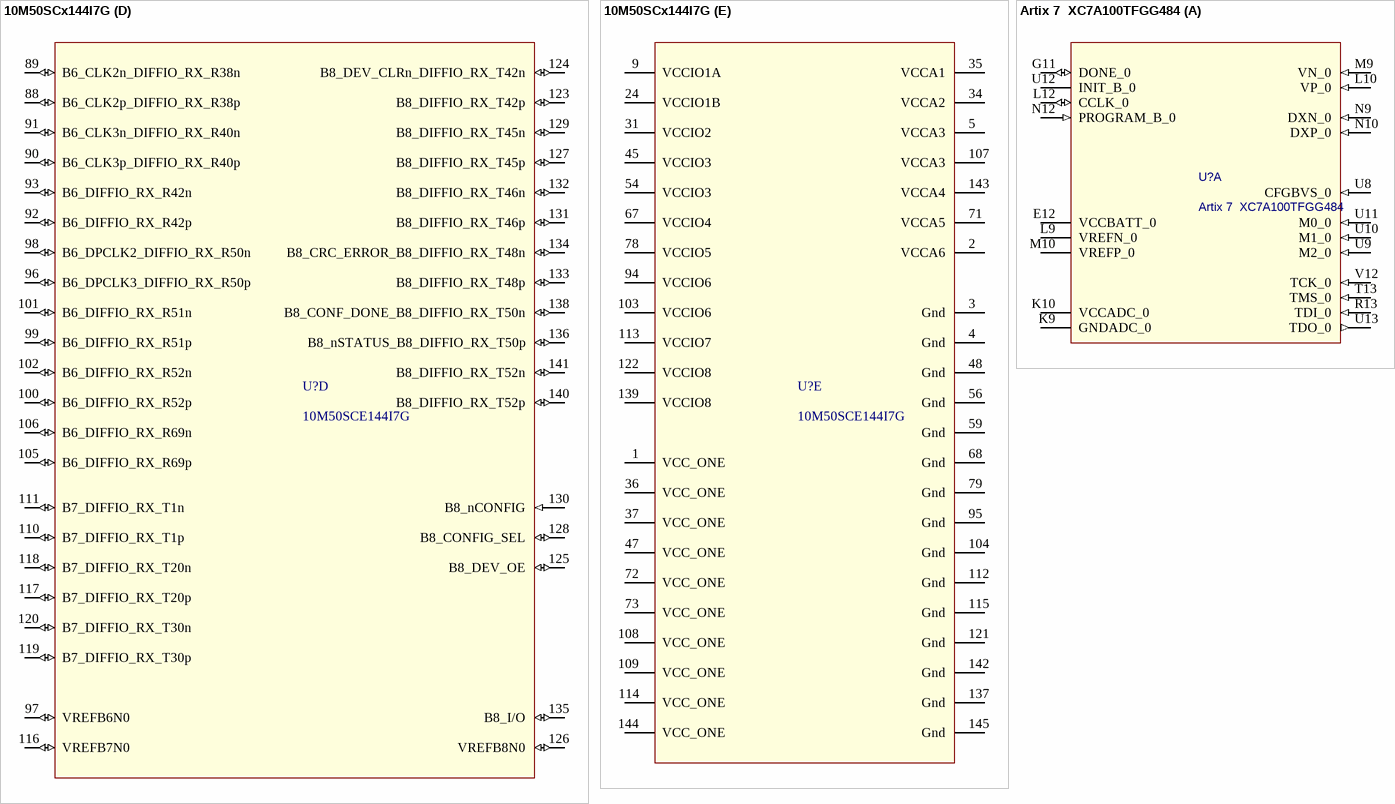
[diagram p5: symbols 10M50SCx144I7G to Artix 7  XC7A100TFGG484]

## 10M50SCx144I7G
designator U?, comment 10M50SCE144I7G
footprint EQFP 144 (EQFP, 144-Leads, Body 20,00x20,00mm, Pitch 0,50mm, Thermal Pad 4,00x4,00mm, IPC Medium Density)
part A pins: 6 B1A_DIFFIO_RX_L1n (io), 7 B1A_DIFFIO_RX_L1p (io), 8 B1A_DIFFIO_RX_L3n (io), 10 B1A_DIFFIO_RX_L3p (io), 11 B1A_DIFFIO_RX_L5n (io), 12 B1A_DIFFIO_RX_L5p (io), 13 B1A_DIFFIO_RX_L7n (io), 14 B1A_DIFFIO_RX_L7p (io), 15 B1B_JTAGEN (io), 16 B1B_TMS_DIFFIO_RX_L17n (io), 17 B1B_TCK_DIFFIO_RX_L17p (io), 18 B1B_TDI_DIFFIO_RX_L18n (io), 19 B1B_TDO_DIFFIO_RX_L18p (io), 20 B1B_DIFFIO_RX_L20n (io), 21 B1B_DIFFIO_RX_L20p (io), 22 B1B_DIFFIO_RX_L22n (io), 23 B1B_DIFFIO_RX_L22p (io)
part B pins: 25 B2_CLK0n_DIFFIO_RX_L28n (io), 26 B2_CLK0p_DIFFIO_RX_L28p (io), 27 B2_CLK1n_DIFFIO_RX_L36n (io), 28 B2_CLK1p_DIFFIO_RX_L36p (io), 29 VREFB2N0 (io), 30 B2_I/O (io), 32 B2_PLL_L_CLKOUTn_DIFFIO_RX_L59n (io), 33 B2_PLL_L_CLKOUTp_DIFFIO_RX_L59p (io), 38 B3_DIFFIO_TX_RX_B1n (io), 39 B3_DIFFIO_TX_RX_B1p (io), 40 B3_DIFFIO_TX_RX_B3n (io), 41 B3_DIFFIO_TX_RX_B3p (io), 42 B3_DIFFIO_TX_RX_B5n (io), 43 B3_DIFFIO_TX_RX_B5p (io), 44 VREFB3N0 (io), 46 B3_DIFFIO_TX_RX_B15n (io), 49 B3_DIFFIO_TX_RX_B15p (io), 50 B3_I/O (io), 51 B3_CLK6n_DIFFIO_TX_RX_B18n (io), 52 B3_CLK6p_DIFFIO_TX_RX_B18p (io), 53 B3_CLK7n_DIFFIO_TX_RX_B20n (io), 55 B3_CLK7p_DIFFIO_TX_RX_B20p (io)
part C pins: 57 VREFB4N0 (io), 58 B4_I/O  (io), 60 B4_DIFFIO_TX_RX_B39n (io), 61 B4_DIFFIO_TX_RX_B39p (io), 62 B4_I/O (io), 63 B4_DIFFIO_TX_RX_B45n (io), 64 B4_DIFFIO_TX_RX_B45p (io), 65 B4_DIFFIO_TX_RX_B49n (io), 66 B4_DIFFIO_TX_RX_B49p (io), 69 B4_DIFFIO_TX_RX_B57n (io), 70 B4_DIFFIO_TX_RX_B57p (io), 74 B5_DIFFIO_RX_R2p (io), 75 B5_DIFFIO_RX_R2n (io), 76 B5_RUP_DIFFIO_RX_R1p (io), 77 B5_RDN_DIFFIO_RX_R1n (io), 80 B5_I/O (io), 81 VREFB5N0 (io), 82 B5_DIFFIO_RX_R29p (io), 83 B5_DIFFIO_RX_R29n (io), 84 B5_DIFFIO_RX_R33p (io), 85 B5_DIFFIO_RX_R32p (io), 86 B5_DIFFIO_RX_R33n (io), 87 B5_DIFFIO_RX_R32n (io)
part D pins: 88 B6_CLK2p_DIFFIO_RX_R38p (io), 89 B6_CLK2n_DIFFIO_RX_R38n (io), 90 B6_CLK3p_DIFFIO_RX_R40p (io), 91 B6_CLK3n_DIFFIO_RX_R40n (io), 92 B6_DIFFIO_RX_R42p (io), 93 B6_DIFFIO_RX_R42n (io), 96 B6_DPCLK3_DIFFIO_RX_R50p (io), 97 VREFB6N0 (io), 98 B6_DPCLK2_DIFFIO_RX_R50n (io), 99 B6_DIFFIO_RX_R51p (io), 100 B6_DIFFIO_RX_R52p (io), 101 B6_DIFFIO_RX_R51n (io), 102 B6_DIFFIO_RX_R52n (io), 105 B6_DIFFIO_RX_R69p (io), 106 B6_DIFFIO_RX_R69n (io), 110 B7_DIFFIO_RX_T1p (io), 111 B7_DIFFIO_RX_T1n (io), 116 VREFB7N0 (io), 117 B7_DIFFIO_RX_T20p (io), 118 B7_DIFFIO_RX_T20n (io), 119 B7_DIFFIO_RX_T30p (io), 120 B7_DIFFIO_RX_T30n (io), 123 B8_DIFFIO_RX_T42p (io), 124 B8_DEV_CLRn_DIFFIO_RX_T42n (io), 125 B8_DEV_OE (io), 126 VREFB8N0 (io), 127 B8_DIFFIO_RX_T45p (io), 128 B8_CONFIG_SEL (io), 129 B8_DIFFIO_RX_T45n (io), 130 B8_nCONFIG (in), 131 B8_DIFFIO_RX_T46p (io), 132 B8_DIFFIO_RX_T46n (io), 133 B8_DIFFIO_RX_T48p (io), 134 B8_CRC_ERROR_B8_DIFFIO_RX_T48n (io), 135 B8_I/O (io), 136 B8_nSTATUS_B8_DIFFIO_RX_T50p (io), 138 B8_CONF_DONE_B8_DIFFIO_RX_T50n (io), 140 B8_DIFFIO_RX_T52p (io), 141 B8_DIFFIO_RX_T52n (io)
part E pins: 1 VCC_ONE (power), 2 VCCA6 (power), 3 Gnd (power), 4 Gnd (power), 5 VCCA3 (power), 9 VCCIO1A (power), 24 VCCIO1B (power), 31 VCCIO2 (power), 34 VCCA2 (power), 35 VCCA1 (power), 36 VCC_ONE (power), 37 VCC_ONE (power), 45 VCCIO3 (power), 47 VCC_ONE (power), 48 Gnd (power), 54 VCCIO3 (power), 56 Gnd (power), 59 Gnd (power), 67 VCCIO4 (power), 68 Gnd (power), 71 VCCA5 (power), 72 VCC_ONE (power), 73 VCC_ONE (power), 78 VCCIO5 (power), 79 Gnd (power), 94 VCCIO6 (power), 95 Gnd (power), 103 VCCIO6 (power), 104 Gnd (power), 107 VCCA3 (power), 108 VCC_ONE (power), 109 VCC_ONE (power), 112 Gnd (power), 113 VCCIO7 (power), 114 VCC_ONE (power), 115 Gnd (power), 121 Gnd (power), 122 VCCIO8 (power), 137 Gnd (power), 139 VCCIO8 (power), 142 Gnd (power), 143 VCCA4 (power), 144 VCC_ONE (power), 145 Gnd (power)

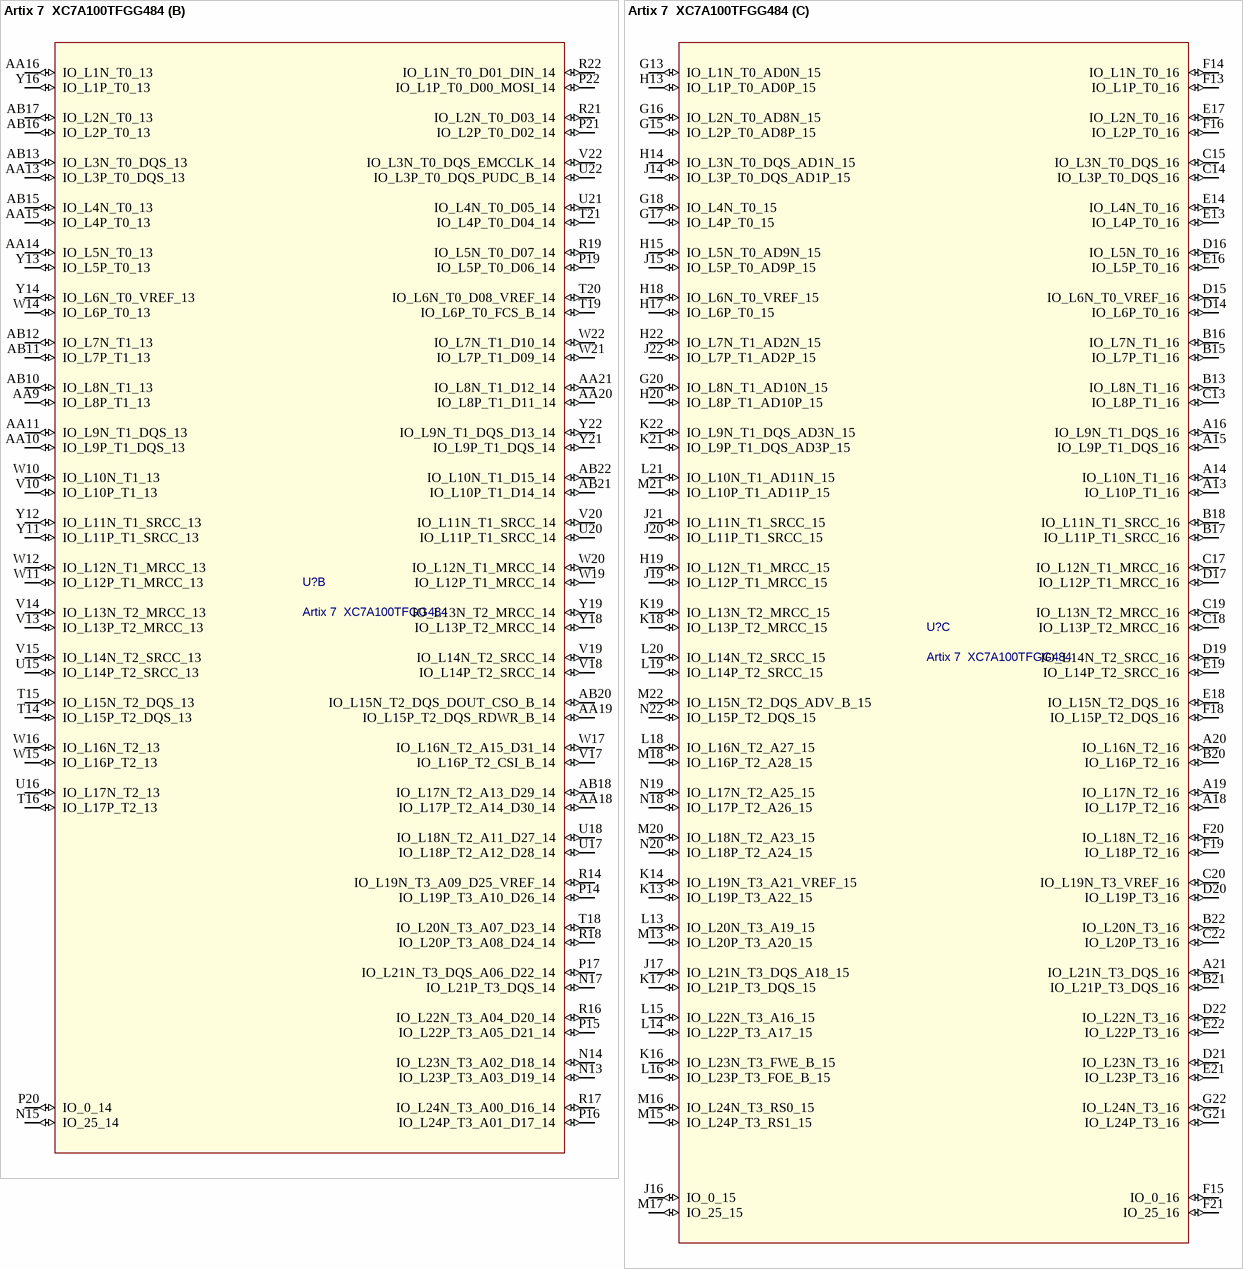
[diagram p6: symbol Artix 7  XC7A100TFGG484]

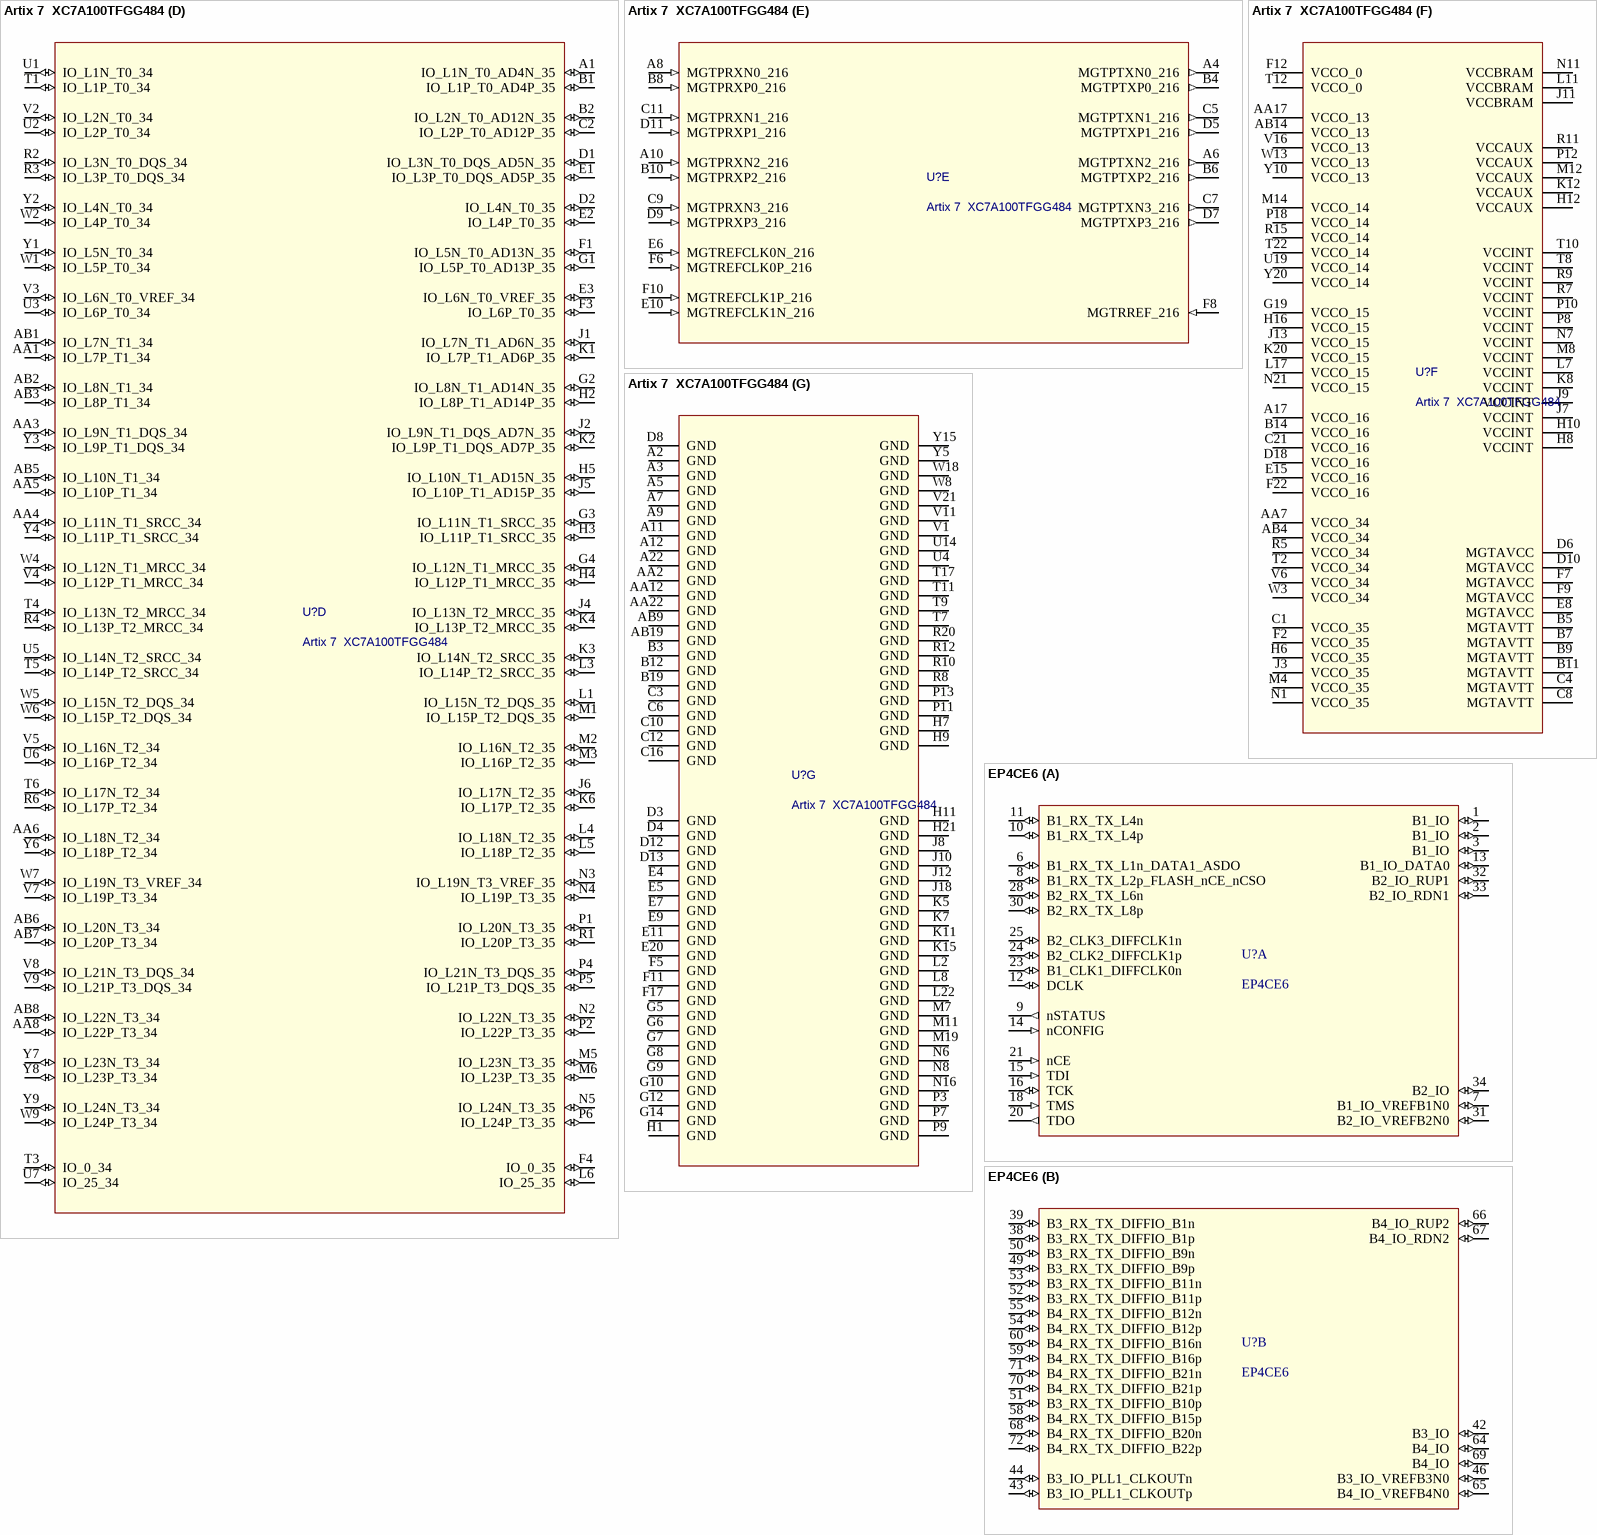
[diagram p7: symbols Artix 7  XC7A100TFGG484 to EP4CE6]

## Artix 7  XC7A100TFGG484
designator U?
footprint FGG484(ball 0.6, pad 0.5) (FG484 and FGG484 (Artix 7 FPGAs) Wire-Bond Fine-Pitch BGA (1.0 mm Pitch))
part A pins: E12 VCCBATT_0 (power) "E12", G11 DONE_0 (io) "G11", K9 GNDADC_0 (power) "K9", K10 VCCADC_0 (power) "K10", L9 VREFN_0 (power) "L9", L10 VP_0 (in) "L10", L12 CCLK_0 (io) "L12", M9 VN_0 (in) "M9", M10 VREFP_0 (power) "M10", N9 DXN_0 (in) "N9", N10 DXP_0 (in) "N10", N12 PROGRAM_B_0 (in) "N12", R13 TDI_0 (in) "R13", T13 TMS_0 (in) "T13", U8 CFGBVS_0 (in) "U8", U9 M2_0 (in) "U9", U10 M1_0 (in) "U10", U11 M0_0 (in) "U11", U12 INIT_B_0 (oc) "U12", U13 TDO_0 (out) "U13", V12 TCK_0 (in) "V12"
part B pins: AA9 IO_L8P_T1_13 (io) "HR", AA10 IO_L9P_T1_DQS_13 (io) "HR", AA11 IO_L9N_T1_DQS_13 (io) "HR", AA13 IO_L3P_T0_DQS_13 (io) "HR", AA14 IO_L5N_T0_13 (io) "HR", AA15 IO_L4P_T0_13 (io) "HR", AA16 IO_L1N_T0_13 (io) "HR", AA18 IO_L17P_T2_A14_D30_14 (io) "HR", AA19 IO_L15P_T2_DQS_RDWR_B_14 (io) "HR", AA20 IO_L8P_T1_D11_14 (io) "HR", AA21 IO_L8N_T1_D12_14 (io) "HR", AB10 IO_L8N_T1_13 (io) "HR", AB11 IO_L7P_T1_13 (io) "HR", AB12 IO_L7N_T1_13 (io) "HR", AB13 IO_L3N_T0_DQS_13 (io) "HR", AB15 IO_L4N_T0_13 (io) "HR", AB16 IO_L2P_T0_13 (io) "HR", AB17 IO_L2N_T0_13 (io) "HR", AB18 IO_L17N_T2_A13_D29_14 (io) "HR", AB20 IO_L15N_T2_DQS_DOUT_CSO_B_14 (io) "HR", AB21 IO_L10P_T1_D14_14 (io) "HR", AB22 IO_L10N_T1_D15_14 (io) "HR", N13 IO_L23P_T3_A03_D19_14 (io) "HR", N14 IO_L23N_T3_A02_D18_14 (io) "HR", N15 IO_25_14 (io) "HR", N17 IO_L21P_T3_DQS_14 (io) "HR", P14 IO_L19P_T3_A10_D26_14 (io) "HR", P15 IO_L22P_T3_A05_D21_14 (io) "HR", P16 IO_L24P_T3_A01_D17_14 (io) "HR", P17 IO_L21N_T3_DQS_A06_D22_14 (io) "HR", P19 IO_L5P_T0_D06_14 (io) "HR", P20 IO_0_14 (io) "HR", P21 IO_L2P_T0_D02_14 (io) "HR", P22 IO_L1P_T0_D00_MOSI_14 (io) "HR", R14 IO_L19N_T3_A09_D25_VREF_14 (io) "HR", R16 IO_L22N_T3_A04_D20_14 (io) "HR", R17 IO_L24N_T3_A00_D16_14 (io) "HR", R18 IO_L20P_T3_A08_D24_14 (io) "HR", R19 IO_L5N_T0_D07_14 (io) "HR", R21 IO_L2N_T0_D03_14 (io) "HR", R22 IO_L1N_T0_D01_DIN_14 (io) "HR", T14 IO_L15P_T2_DQS_13 (io) "HR", T15 IO_L15N_T2_DQS_13 (io) "HR", T16 IO_L17P_T2_13 (io) "HR", T18 IO_L20N_T3_A07_D23_14 (io) "HR", T19 IO_L6P_T0_FCS_B_14 (io) "HR", T20 IO_L6N_T0_D08_VREF_14 (io) "HR", T21 IO_L4P_T0_D04_14 (io) "HR", U15 IO_L14P_T2_SRCC_13 (io) "HR", U16 IO_L17N_T2_13 (io) "HR", U17 IO_L18P_T2_A12_D28_14 (io) "HR", U18 IO_L18N_T2_A11_D27_14 (io) "HR", U20 IO_L11P_T1_SRCC_14 (io) "HR", U21 IO_L4N_T0_D05_14 (io) "HR", U22 IO_L3P_T0_DQS_PUDC_B_14 (io) "HR", V10 IO_L10P_T1_13 (io) "HR", V13 IO_L13P_T2_MRCC_13 (io) "HR", V14 IO_L13N_T2_MRCC_13 (io) "HR", V15 IO_L14N_T2_SRCC_13 (io) "HR", V17 IO_L16P_T2_CSI_B_14 (io) "HR", V18 IO_L14P_T2_SRCC_14 (io) "HR", V19 IO_L14N_T2_SRCC_14 (io) "HR", V20 IO_L11N_T1_SRCC_14 (io) "HR", V22 IO_L3N_T0_DQS_EMCCLK_14 (io) "HR", W10 IO_L10N_T1_13 (io) "HR", W11 IO_L12P_T1_MRCC_13 (io) "HR", W12 IO_L12N_T1_MRCC_13 (io) "HR", W14 IO_L6P_T0_13 (io) "HR", W15 IO_L16P_T2_13 (io) "HR", W16 IO_L16N_T2_13 (io) "HR", W17 IO_L16N_T2_A15_D31_14 (io) "HR", W19 IO_L12P_T1_MRCC_14 (io) "HR", W20 IO_L12N_T1_MRCC_14 (io) "HR", W21 IO_L7P_T1_D09_14 (io) "HR", W22 IO_L7N_T1_D10_14 (io) "HR", Y11 IO_L11P_T1_SRCC_13 (io) "HR", Y12 IO_L11N_T1_SRCC_13 (io) "HR", Y13 IO_L5P_T0_13 (io) "HR", Y14 IO_L6N_T0_VREF_13 (io) "HR", Y16 IO_L1P_T0_13 (io) "HR", Y18 IO_L13P_T2_MRCC_14 (io) "HR", Y19 IO_L13N_T2_MRCC_14 (io) "HR", Y21 IO_L9P_T1_DQS_14 (io) "HR", Y22 IO_L9N_T1_DQS_D13_14 (io) "HR"
part C pins: A13 IO_L10P_T1_16 (io) "HR", A14 IO_L10N_T1_16 (io) "HR", A15 IO_L9P_T1_DQS_16 (io) "HR", A16 IO_L9N_T1_DQS_16 (io) "HR", A18 IO_L17P_T2_16 (io) "HR", A19 IO_L17N_T2_16 (io) "HR", A20 IO_L16N_T2_16 (io) "HR", A21 IO_L21N_T3_DQS_16 (io) "HR", B13 IO_L8N_T1_16 (io) "HR", B15 IO_L7P_T1_16 (io) "HR", B16 IO_L7N_T1_16 (io) "HR", B17 IO_L11P_T1_SRCC_16 (io) "HR", B18 IO_L11N_T1_SRCC_16 (io) "HR", B20 IO_L16P_T2_16 (io) "HR", B21 IO_L21P_T3_DQS_16 (io) "HR", B22 IO_L20N_T3_16 (io) "HR", C13 IO_L8P_T1_16 (io) "HR", C14 IO_L3P_T0_DQS_16 (io) "HR", C15 IO_L3N_T0_DQS_16 (io) "HR", C17 IO_L12N_T1_MRCC_16 (io) "HR", C18 IO_L13P_T2_MRCC_16 (io) "HR", C19 IO_L13N_T2_MRCC_16 (io) "HR", C20 IO_L19N_T3_VREF_16 (io) "HR", C22 IO_L20P_T3_16 (io) "HR", D14 IO_L6P_T0_16 (io) "HR", D15 IO_L6N_T0_VREF_16 (io) "HR", D16 IO_L5N_T0_16 (io) "HR", D17 IO_L12P_T1_MRCC_16 (io) "HR", D19 IO_L14N_T2_SRCC_16 (io) "HR", D20 IO_L19P_T3_16 (io) "HR", D21 IO_L23N_T3_16 (io) "HR", D22 IO_L22N_T3_16 (io) "HR", E13 IO_L4P_T0_16 (io) "HR", E14 IO_L4N_T0_16 (io) "HR", E16 IO_L5P_T0_16 (io) "HR", E17 IO_L2N_T0_16 (io) "HR", E18 IO_L15N_T2_DQS_16 (io) "HR", E19 IO_L14P_T2_SRCC_16 (io) "HR", E21 IO_L23P_T3_16 (io) "HR", E22 IO_L22P_T3_16 (io) "HR", F13 IO_L1P_T0_16 (io) "HR", F14 IO_L1N_T0_16 (io) "HR", F15 IO_0_16 (io) "HR", F16 IO_L2P_T0_16 (io) "HR", F18 IO_L15P_T2_DQS_16 (io) "HR", F19 IO_L18P_T2_16 (io) "HR", F20 IO_L18N_T2_16 (io) "HR", F21 IO_25_16 (io) "HR", G13 IO_L1N_T0_AD0N_15 (io) "HR", G15 IO_L2P_T0_AD8P_15 (io) "HR", G16 IO_L2N_T0_AD8N_15 (io) "HR", G17 IO_L4P_T0_15 (io) "HR", G18 IO_L4N_T0_15 (io) "HR", G20 IO_L8N_T1_AD10N_15 (io) "HR", G21 IO_L24P_T3_16 (io) "HR", G22 IO_L24N_T3_16 (io) "HR", H13 IO_L1P_T0_AD0P_15 (io) "HR", H14 IO_L3N_T0_DQS_AD1N_15 (io) "HR", H15 IO_L5N_T0_AD9N_15 (io) "HR", H17 IO_L6P_T0_15 (io) "HR", H18 IO_L6N_T0_VREF_15 (io) "HR", H19 IO_L12N_T1_MRCC_15 (io) "HR", H20 IO_L8P_T1_AD10P_15 (io) "HR", H22 IO_L7N_T1_AD2N_15 (io) "HR", J14 IO_L3P_T0_DQS_AD1P_15 (io) "HR", J15 IO_L5P_T0_AD9P_15 (io) "HR", J16 IO_0_15 (io) "HR", J17 IO_L21N_T3_DQS_A18_15 (io) "HR", J19 IO_L12P_T1_MRCC_15 (io) "HR", J20 IO_L11P_T1_SRCC_15 (io) "HR", J21 IO_L11N_T1_SRCC_15 (io) "HR", J22 IO_L7P_T1_AD2P_15 (io) "HR", K13 IO_L19P_T3_A22_15 (io) "HR", K14 IO_L19N_T3_A21_VREF_15 (io) "HR", K16 IO_L23N_T3_FWE_B_15 (io) "HR", K17 IO_L21P_T3_DQS_15 (io) "HR", K18 IO_L13P_T2_MRCC_15 (io) "HR", K19 IO_L13N_T2_MRCC_15 (io) "HR", K21 IO_L9P_T1_DQS_AD3P_15 (io) "HR", K22 IO_L9N_T1_DQS_AD3N_15 (io) "HR", L13 IO_L20N_T3_A19_15 (io) "HR", L14 IO_L22P_T3_A17_15 (io) "HR", L15 IO_L22N_T3_A16_15 (io) "HR", L16 IO_L23P_T3_FOE_B_15 (io) "HR", L18 IO_L16N_T2_A27_15 (io) "HR", L19 IO_L14P_T2_SRCC_15 (io) "HR", L20 IO_L14N_T2_SRCC_15 (io) "HR", L21 IO_L10N_T1_AD11N_15 (io) "HR", M13 IO_L20P_T3_A20_15 (io) "HR", M15 IO_L24P_T3_RS1_15 (io) "HR", M16 IO_L24N_T3_RS0_15 (io) "HR", M17 IO_25_15 (io) "HR", M18 IO_L16P_T2_A28_15 (io) "HR", M20 IO_L18N_T2_A23_15 (io) "HR", M21 IO_L10P_T1_AD11P_15 (io) "HR", M22 IO_L15N_T2_DQS_ADV_B_15 (io) "HR", N18 IO_L17P_T2_A26_15 (io) "HR", N19 IO_L17N_T2_A25_15 (io) "HR", N20 IO_L18P_T2_A24_15 (io) "HR", N22 IO_L15P_T2_DQS_15 (io) "HR"
part D pins: A1 IO_L1N_T0_AD4N_35 (io) "HR", AA1 IO_L7P_T1_34 (io) "HR", AA3 IO_L9N_T1_DQS_34 (io) "HR", AA4 IO_L11N_T1_SRCC_34 (io) "HR", AA5 IO_L10P_T1_34 (io) "HR", AA6 IO_L18N_T2_34 (io) "HR", AA8 IO_L22P_T3_34 (io) "HR", AB1 IO_L7N_T1_34 (io) "HR", AB2 IO_L8N_T1_34 (io) "HR", AB3 IO_L8P_T1_34 (io) "HR", AB5 IO_L10N_T1_34 (io) "HR", AB6 IO_L20N_T3_34 (io) "HR", AB7 IO_L20P_T3_34 (io) "HR", AB8 IO_L22N_T3_34 (io) "HR", B1 IO_L1P_T0_AD4P_35 (io) "HR", B2 IO_L2N_T0_AD12N_35 (io) "HR", C2 IO_L2P_T0_AD12P_35 (io) "HR", D1 IO_L3N_T0_DQS_AD5N_35 (io) "HR", D2 IO_L4N_T0_35 (io) "HR", E1 IO_L3P_T0_DQS_AD5P_35 (io) "HR", E2 IO_L4P_T0_35 (io) "HR", E3 IO_L6N_T0_VREF_35 (io) "HR", F1 IO_L5N_T0_AD13N_35 (io) "HR", F3 IO_L6P_T0_35 (io) "HR", F4 IO_0_35 (io) "HR", G1 IO_L5P_T0_AD13P_35 (io) "HR", G2 IO_L8N_T1_AD14N_35 (io) "HR", G3 IO_L11N_T1_SRCC_35 (io) "HR", G4 IO_L12N_T1_MRCC_35 (io) "HR", H2 IO_L8P_T1_AD14P_35 (io) "HR", H3 IO_L11P_T1_SRCC_35 (io) "HR", H4 IO_L12P_T1_MRCC_35 (io) "HR", H5 IO_L10N_T1_AD15N_35 (io) "HR", J1 IO_L7N_T1_AD6N_35 (io) "HR", J2 IO_L9N_T1_DQS_AD7N_35 (io) "HR", J4 IO_L13N_T2_MRCC_35 (io) "HR", J5 IO_L10P_T1_AD15P_35 (io) "HR", J6 IO_L17N_T2_35 (io) "HR", K1 IO_L7P_T1_AD6P_35 (io) "HR", K2 IO_L9P_T1_DQS_AD7P_35 (io) "HR", K3 IO_L14N_T2_SRCC_35 (io) "HR", K4 IO_L13P_T2_MRCC_35 (io) "HR", K6 IO_L17P_T2_35 (io) "HR", L1 IO_L15N_T2_DQS_35 (io) "HR", L3 IO_L14P_T2_SRCC_35 (io) "HR", L4 IO_L18N_T2_35 (io) "HR", L5 IO_L18P_T2_35 (io) "HR", L6 IO_25_35 (io) "HR", M1 IO_L15P_T2_DQS_35 (io) "HR", M2 IO_L16N_T2_35 (io) "HR", M3 IO_L16P_T2_35 (io) "HR", M5 IO_L23N_T3_35 (io) "HR", M6 IO_L23P_T3_35 (io) "HR", N2 IO_L22N_T3_35 (io) "HR", N3 IO_L19N_T3_VREF_35 (io) "HR", N4 IO_L19P_T3_35 (io) "HR", N5 IO_L24N_T3_35 (io) "HR", P1 IO_L20N_T3_35 (io) "HR", P2 IO_L22P_T3_35 (io) "HR", P4 IO_L21N_T3_DQS_35 (io) "HR", P5 IO_L21P_T3_DQS_35 (io) "HR", P6 IO_L24P_T3_35 (io) "HR", R1 IO_L20P_T3_35 (io) "HR", R2 IO_L3N_T0_DQS_34 (io) "HR", R3 IO_L3P_T0_DQS_34 (io) "HR", R4 IO_L13P_T2_MRCC_34 (io) "HR", R6 IO_L17P_T2_34 (io) "HR", T1 IO_L1P_T0_34 (io) "HR", T3 IO_0_34 (io) "HR", T4 IO_L13N_T2_MRCC_34 (io) "HR", T5 IO_L14P_T2_SRCC_34 (io) "HR", T6 IO_L17N_T2_34 (io) "HR", U1 IO_L1N_T0_34 (io) "HR", U2 IO_L2P_T0_34 (io) "HR", U3 IO_L6P_T0_34 (io) "HR", U5 IO_L14N_T2_SRCC_34 (io) "HR", U6 IO_L16P_T2_34 (io) "HR", U7 IO_25_34 (io) "HR", V2 IO_L2N_T0_34 (io) "HR", V3 IO_L6N_T0_VREF_34 (io) "HR", V4 IO_L12P_T1_MRCC_34 (io) "HR", V5 IO_L16N_T2_34 (io) "HR", V7 IO_L19P_T3_34 (io) "HR", V8 IO_L21N_T3_DQS_34 (io) "HR", V9 IO_L21P_T3_DQS_34 (io) "HR", W1 IO_L5P_T0_34 (io) "HR", W2 IO_L4P_T0_34 (io) "HR", W4 IO_L12N_T1_MRCC_34 (io) "HR", W5 IO_L15N_T2_DQS_34 (io) "HR", W6 IO_L15P_T2_DQS_34 (io) "HR", W7 IO_L19N_T3_VREF_34 (io) "HR", W9 IO_L24P_T3_34 (io) "HR", Y1 IO_L5N_T0_34 (io) "HR", Y2 IO_L4N_T0_34 (io) "HR", Y3 IO_L9P_T1_DQS_34 (io) "HR", Y4 IO_L11P_T1_SRCC_34 (io) "HR", Y6 IO_L18P_T2_34 (io) "HR", Y7 IO_L23N_T3_34 (io) "HR", Y8 IO_L23P_T3_34 (io) "HR", Y9 IO_L24N_T3_34 (io) "HR"
part E pins: A4 MGTPTXN0_216 (out) "GTP", A6 MGTPTXN2_216 (out) "GTP", A8 MGTPRXN0_216 (in) "GTP", A10 MGTPRXN2_216 (in) "GTP", B4 MGTPTXP0_216 (out) "GTP", B6 MGTPTXP2_216 (out) "GTP", B8 MGTPRXP0_216 (in) "GTP", B10 MGTPRXP2_216 (in) "GTP", C5 MGTPTXN1_216 (out) "GTP", C7 MGTPTXN3_216 (out) "GTP", C9 MGTPRXN3_216 (in) "GTP", C11 MGTPRXN1_216 (in) "GTP", D5 MGTPTXP1_216 (out) "GTP", D7 MGTPTXP3_216 (out) "GTP", D9 MGTPRXP3_216 (in) "GTP", D11 MGTPRXP1_216 (in) "GTP", E6 MGTREFCLK0N_216 (in) "GTP", E10 MGTREFCLK1N_216 (in) "GTP", F6 MGTREFCLK0P_216 (in) "GTP", F8 MGTRREF_216 (in) "GTP", F10 MGTREFCLK1P_216 (in) "GTP"
part F pins: A17 VCCO_16 (power) "NA", AA7 VCCO_34 (power) "NA", AA17 VCCO_13 (power) "NA", AB4 VCCO_34 (power) "NA", AB14 VCCO_13 (power) "NA", B5 MGTAVTT (power) "NA", B7 MGTAVTT (power) "NA", B9 MGTAVTT (power) "NA", B11 MGTAVTT (power) "NA", B14 VCCO_16 (power) "NA", C1 VCCO_35 (power) "NA", C4 MGTAVTT (power) "NA", C8 MGTAVTT (power) "NA", C21 VCCO_16 (power) "NA", D6 MGTAVCC (power) "NA", D10 MGTAVCC (power) "NA", D18 VCCO_16 (power) "NA", E8 MGTAVCC (power) "NA", E15 VCCO_16 (power) "NA", F2 VCCO_35 (power) "NA", F7 MGTAVCC (power) "NA", F9 MGTAVCC (power) "NA", F12 VCCO_0 (power) "NA", F22 VCCO_16 (power) "NA", G19 VCCO_15 (power) "NA", H6 VCCO_35 (power) "NA", H8 VCCINT (power) "NA", H10 VCCINT (power) "NA", H12 VCCAUX (power) "NA", H16 VCCO_15 (power) "NA", J3 VCCO_35 (power) "NA", J7 VCCINT (power) "NA", J9 VCCINT (power) "NA", J11 VCCBRAM (power) "NA", J13 VCCO_15 (power) "NA", K8 VCCINT (power) "NA", K12 VCCAUX (power) "NA", K20 VCCO_15 (power) "NA", L7 VCCINT (power) "NA", L11 VCCBRAM (power) "NA", L17 VCCO_15 (power) "NA", M4 VCCO_35 (power) "NA", M8 VCCINT (power) "NA", M12 VCCAUX (power) "NA", M14 VCCO_14 (power) "NA", N1 VCCO_35 (power) "NA", N7 VCCINT (power) "NA", N11 VCCBRAM (power) "NA", N21 VCCO_15 (power) "NA", P8 VCCINT (power) "NA", P10 VCCINT (power) "NA", P12 VCCAUX (power) "NA", P18 VCCO_14 (power) "NA", R5 VCCO_34 (power) "NA", R7 VCCINT (power) "NA", R9 VCCINT (power) "NA", R11 VCCAUX (power) "NA", R15 VCCO_14 (power) "NA", T2 VCCO_34 (power) "NA", T8 VCCINT (power) "NA", T10 VCCINT (power) "NA", T12 VCCO_0 (power) "NA", T22 VCCO_14 (power) "NA", U19 VCCO_14 (power) "NA", V6 VCCO_34 (power) "NA", V16 VCCO_13 (power) "NA", W3 VCCO_34 (power) "NA", W13 VCCO_13 (power) "NA", Y10 VCCO_13 (power) "NA", Y20 VCCO_14 (power) "NA"
part G pins: A2 GND (power) "NA", A3 GND (power) "NA", A5 GND (power) "NA", A7 GND (power) "NA", A9 GND (power) "NA", A11 GND (power) "NA", A12 GND (power) "NA", A22 GND (power) "NA", AA2 GND (power) "NA", AA12 GND (power) "NA", AA22 GND (power) "NA", AB9 GND (power) "NA", AB19 GND (power) "NA", B3 GND (power) "NA", B12 GND (power) "NA", B19 GND (power) "NA", C3 GND (power) "NA", C6 GND (power) "NA", C10 GND (power) "NA", C12 GND (power) "NA", C16 GND (power) "NA", D3 GND (power) "NA", D4 GND (power) "NA", D8 GND (power) "NA", D12 GND (power) "NA", D13 GND (power) "NA", E4 GND (power) "NA", E5 GND (power) "NA", E7 GND (power) "NA", E9 GND (power) "NA", E11 GND (power) "NA", E20 GND (power) "NA", F5 GND (power) "NA", F11 GND (power) "NA", F17 GND (power) "NA", G5 GND (power) "NA", G6 GND (power) "NA", G7 GND (power) "NA", G8 GND (power) "NA", G9 GND (power) "NA", G10 GND (power) "NA", G12 GND (power) "NA", G14 GND (power) "NA", H1 GND (power) "NA", H7 GND (power) "NA", H9 GND (power) "NA", H11 GND (power) "NA", H21 GND (power) "NA", J8 GND (power) "NA", J10 GND (power) "NA", J12 GND (power) "NA", J18 GND (power) "NA", K5 GND (power) "NA", K7 GND (power) "NA", K11 GND (power) "NA", K15 GND (power) "NA", L2 GND (power) "NA", L8 GND (power) "NA", L22 GND (power) "NA", M7 GND (power) "NA", M11 GND (power) "NA", M19 GND (power) "NA", N6 GND (power) "NA", N8 GND (power) "NA", N16 GND (power) "NA", P3 GND (power) "NA", P7 GND (power) "NA", P9 GND (power) "NA", P11 GND (power) "NA", P13 GND (power) "NA", R8 GND (power) "NA", R10 GND (power) "NA", R12 GND (power) "NA", R20 GND (power) "NA", T7 GND (power) "NA", T9 GND (power) "NA", T11 GND (power) "NA", T17 GND (power) "NA", U4 GND (power) "NA", U14 GND (power) "NA", V1 GND (power) "NA", V11 GND (power) "NA", V21 GND (power) "NA", W8 GND (power) "NA", W18 GND (power) "NA", Y5 GND (power) "NA", Y15 GND (power) "NA"

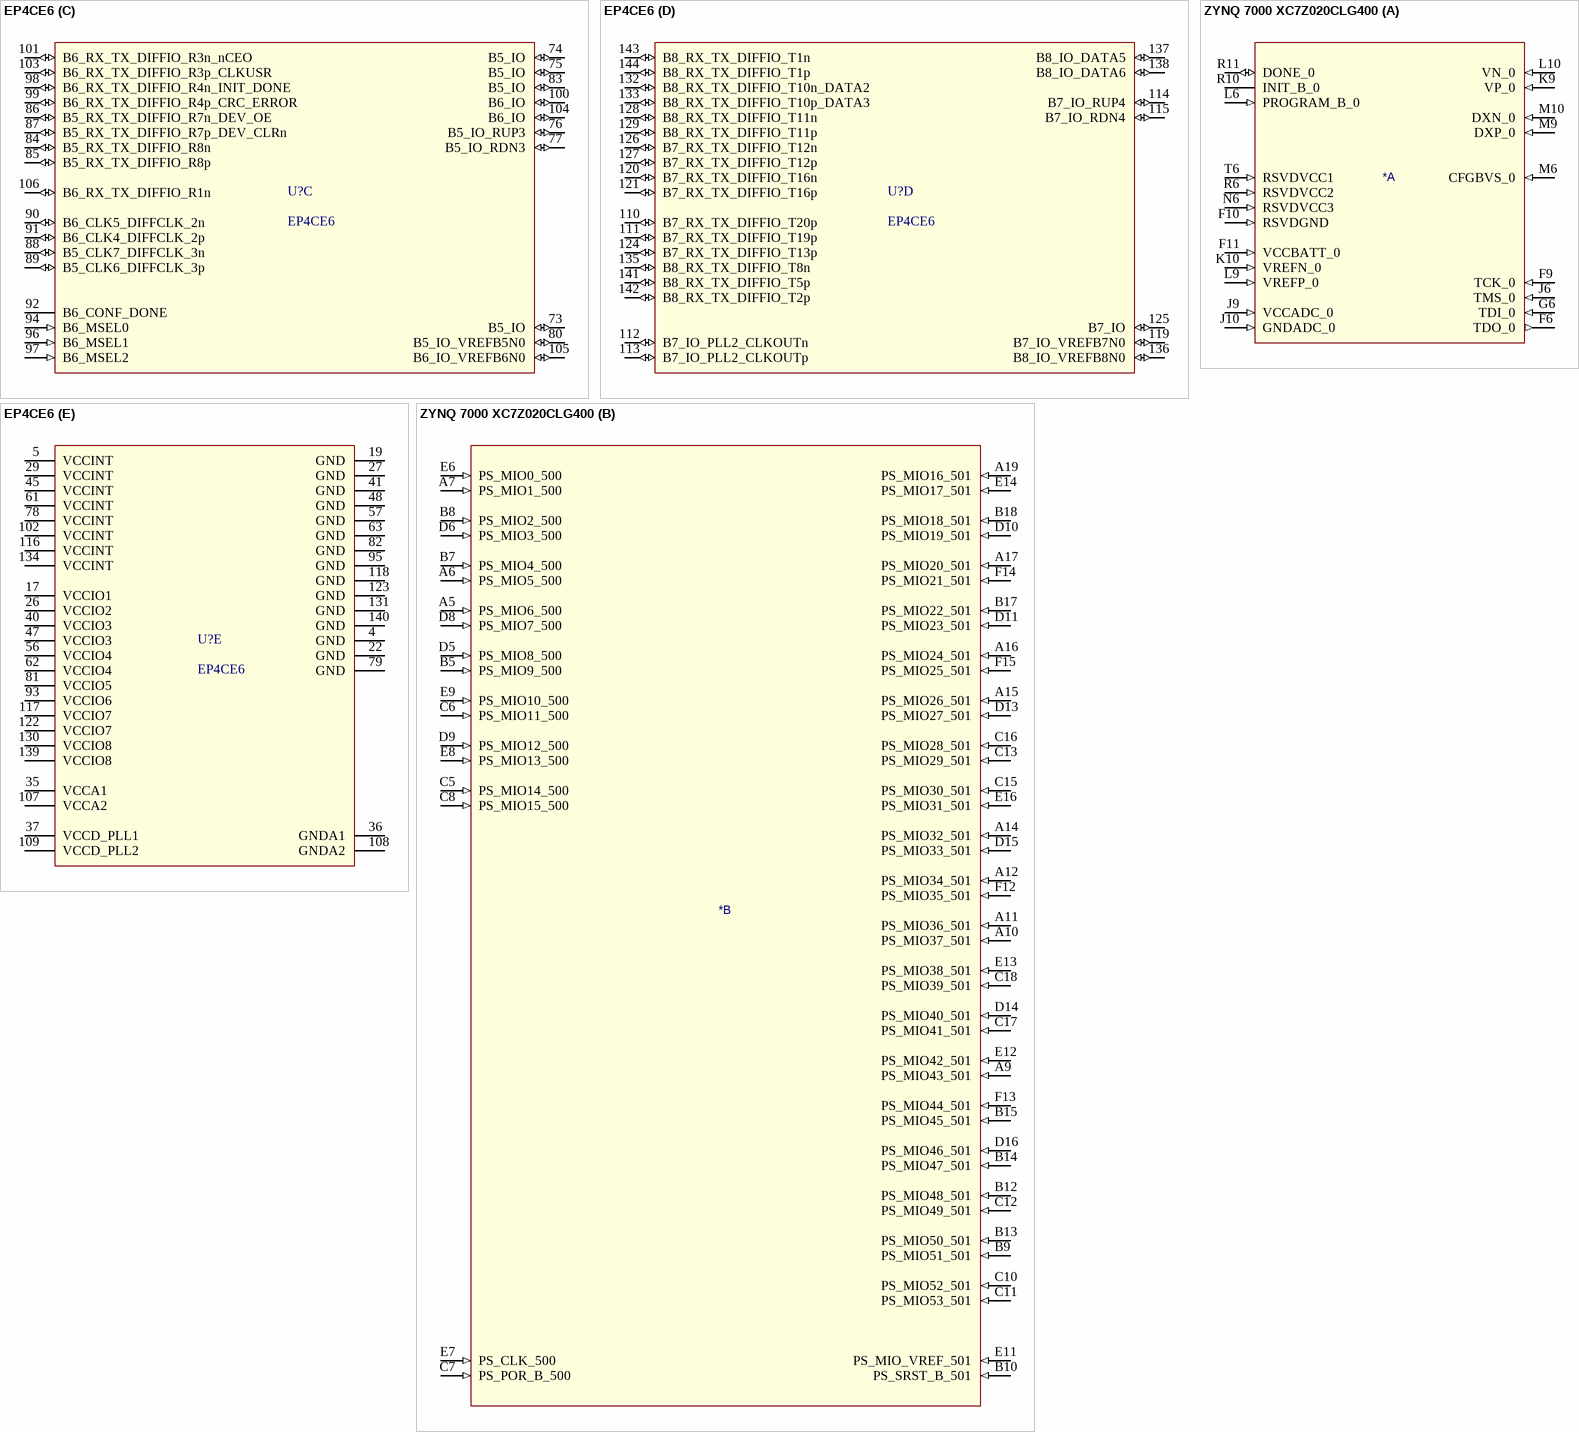
[diagram p8: symbols EP4CE6 to ZYNQ 7000 XC7Z020CLG400]

## EP4CE6
designator U?
Manufacturer: Intel
footprint EQFP 144 (EQFP, 144-Leads, Body 20,00x20,00mm, Pitch 0,50mm, Thermal Pad 4,00x4,00mm, IPC Medium Density)
part A pins: 1 B1_IO (io), 2 B1_IO (io), 3 B1_IO (io), 6 B1_RX_TX_L1n_DATA1_ASDO (io), 7 B1_IO_VREFB1N0 (io), 8 B1_RX_TX_L2p_FLASH_nCE_nCSO (io), 9 nSTATUS (out), 10 B1_RX_TX_L4p (io), 11 B1_RX_TX_L4n (io), 12 DCLK (io), 13 B1_IO_DATA0 (io), 14 nCONFIG (in), 15 TDI (in), 16 TCK (io), 18 TMS (in), 20 TDO (out), 21 nCE (in), 23 B1_CLK1_DIFFCLK0n (io), 24 B2_CLK2_DIFFCLK1p (io), 25 B2_CLK3_DIFFCLK1n (io), 28 B2_RX_TX_L6n (io), 30 B2_RX_TX_L8p (io), 31 B2_IO_VREFB2N0 (io), 32 B2_IO_RUP1 (io), 33 B2_IO_RDN1 (io), 34 B2_IO (io)
part B pins: 38 B3_RX_TX_DIFFIO_B1p (io), 39 B3_RX_TX_DIFFIO_B1n (io), 42 B3_IO (io), 43 B3_IO_PLL1_CLKOUTp (io), 44 B3_IO_PLL1_CLKOUTn (io), 46 B3_IO_VREFB3N0 (io), 49 B3_RX_TX_DIFFIO_B9p (io), 50 B3_RX_TX_DIFFIO_B9n (io), 51 B3_RX_TX_DIFFIO_B10p (io), 52 B3_RX_TX_DIFFIO_B11p (io), 53 B3_RX_TX_DIFFIO_B11n (io), 54 B4_RX_TX_DIFFIO_B12p (io), 55 B4_RX_TX_DIFFIO_B12n (io), 58 B4_RX_TX_DIFFIO_B15p (io), 59 B4_RX_TX_DIFFIO_B16p (io), 60 B4_RX_TX_DIFFIO_B16n (io), 64 B4_IO (io), 65 B4_IO_VREFB4N0 (io), 66 B4_IO_RUP2 (io), 67 B4_IO_RDN2 (io), 68 B4_RX_TX_DIFFIO_B20n (io), 69 B4_IO (io), 70 B4_RX_TX_DIFFIO_B21p (io), 71 B4_RX_TX_DIFFIO_B21n (io), 72 B4_RX_TX_DIFFIO_B22p (io)
part C pins: 73 B5_IO (io), 74 B5_IO (io), 75 B5_IO (io), 76 B5_IO_RUP3 (io), 77 B5_IO_RDN3 (io), 80 B5_IO_VREFB5N0 (io), 83 B5_IO (io), 84 B5_RX_TX_DIFFIO_R8n (io), 85 B5_RX_TX_DIFFIO_R8p (io), 86 B5_RX_TX_DIFFIO_R7n_DEV_OE (io), 87 B5_RX_TX_DIFFIO_R7p_DEV_CLRn (io), 88 B5_CLK7_DIFFCLK_3n (io), 89 B5_CLK6_DIFFCLK_3p (io), 90 B6_CLK5_DIFFCLK_2n (io), 91 B6_CLK4_DIFFCLK_2p (io), 92 B6_CONF_DONE (oc), 94 B6_MSEL0 (in), 96 B6_MSEL1 (in), 97 B6_MSEL2 (in), 98 B6_RX_TX_DIFFIO_R4n_INIT_DONE (io), 99 B6_RX_TX_DIFFIO_R4p_CRC_ERROR (io), 100 B6_IO (io), 101 B6_RX_TX_DIFFIO_R3n_nCEO (io), 103 B6_RX_TX_DIFFIO_R3p_CLKUSR (io), 104 B6_IO (io), 105 B6_IO_VREFB6N0 (io), 106 B6_RX_TX_DIFFIO_R1n (io)
part D pins: 110 B7_RX_TX_DIFFIO_T20p (io), 111 B7_RX_TX_DIFFIO_T19p (io), 112 B7_IO_PLL2_CLKOUTn (io), 113 B7_IO_PLL2_CLKOUTp (io), 114 B7_IO_RUP4 (io), 115 B7_IO_RDN4 (io), 119 B7_IO_VREFB7N0 (io), 120 B7_RX_TX_DIFFIO_T16n (io), 121 B7_RX_TX_DIFFIO_T16p (io), 124 B7_RX_TX_DIFFIO_T13p (io), 125 B7_IO (io), 126 B7_RX_TX_DIFFIO_T12n (io), 127 B7_RX_TX_DIFFIO_T12p (io), 128 B8_RX_TX_DIFFIO_T11n (io), 129 B8_RX_TX_DIFFIO_T11p (io), 132 B8_RX_TX_DIFFIO_T10n_DATA2 (io), 133 B8_RX_TX_DIFFIO_T10p_DATA3 (io), 135 B8_RX_TX_DIFFIO_T8n (io), 136 B8_IO_VREFB8N0 (io), 137 B8_IO_DATA5 (io), 138 B8_IO_DATA6 (io), 141 B8_RX_TX_DIFFIO_T5p (io), 142 B8_RX_TX_DIFFIO_T2p (io), 143 B8_RX_TX_DIFFIO_T1n (io), 144 B8_RX_TX_DIFFIO_T1p (io)
part E pins: 4 GND (power), 5 VCCINT (power), 17 VCCIO1 (power), 19 GND (power), 22 GND (power), 26 VCCIO2 (power), 27 GND (power), 29 VCCINT (power), 35 VCCA1 (power), 36 GNDA1 (power), 37 VCCD_PLL1 (power), 40 VCCIO3 (power), 41 GND (power), 45 VCCINT (power), 47 VCCIO3 (power), 48 GND (power), 56 VCCIO4 (power), 57 GND (power), 61 VCCINT (power), 62 VCCIO4 (power), 63 GND (power), 78 VCCINT (power), 79 GND (power), 81 VCCIO5 (power), 82 GND (power), 93 VCCIO6 (power), 95 GND (power), 102 VCCINT (power), 107 VCCA2 (power), 108 GNDA2 (power), 109 VCCD_PLL2 (power), 116 VCCINT (power), 117 VCCIO7 (power), 118 GND (power), 122 VCCIO7 (power), 123 GND (power), 130 VCCIO8 (power), 131 GND (power), 134 VCCINT (power), 139 VCCIO8 (power), 140 GND (power)

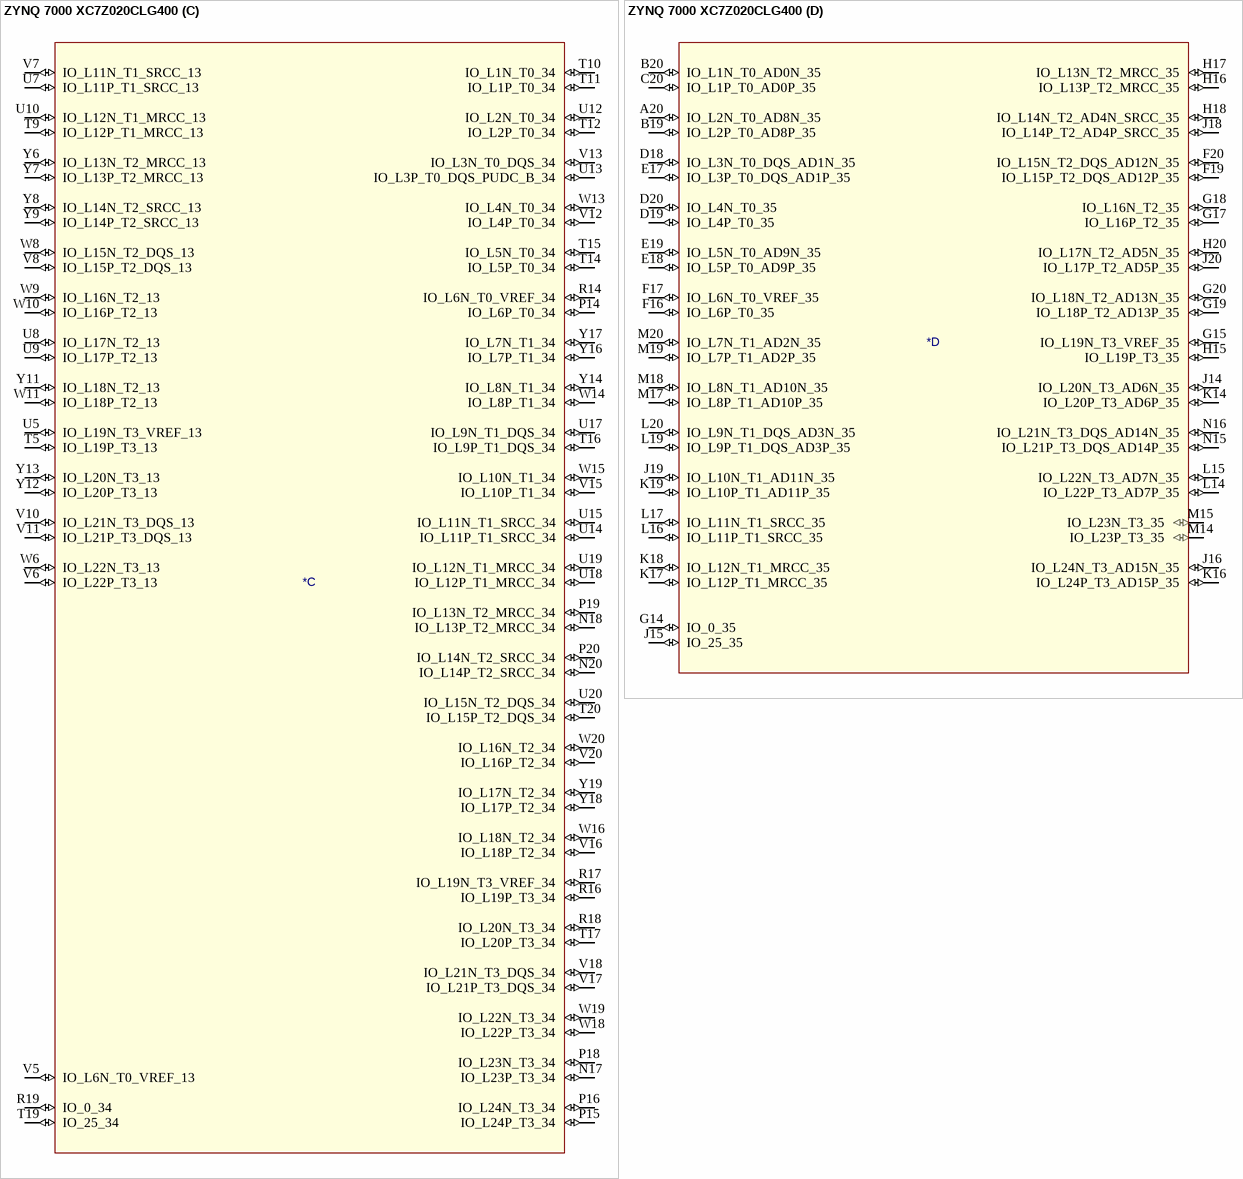
[diagram p9: symbol ZYNQ 7000 XC7Z020CLG400]

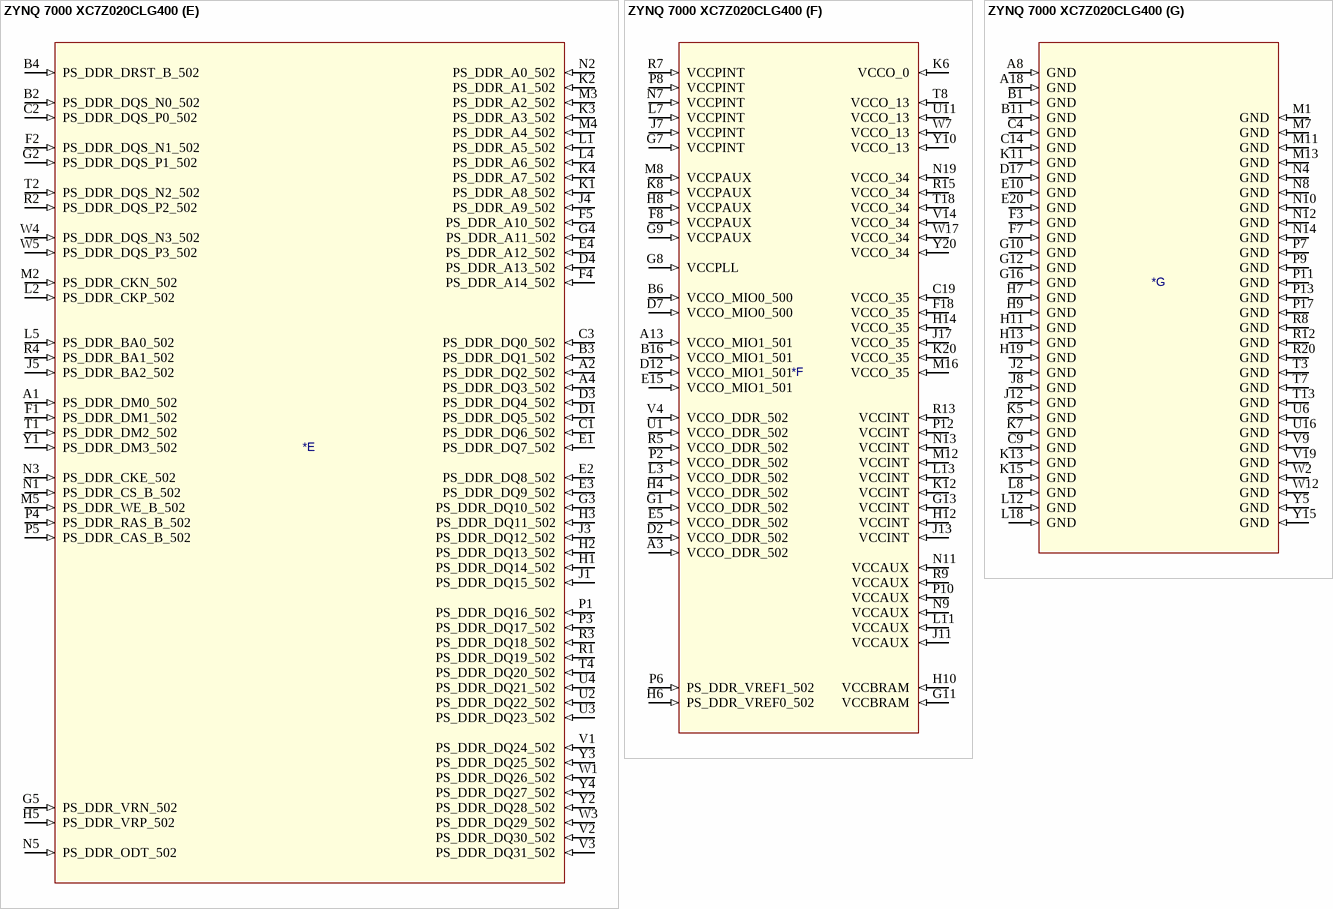
[diagram p10: symbol ZYNQ 7000 XC7Z020CLG400]